# Altium integrated library Philips Microcontroller 8-Bit.IntLib: 472 symbols (part 4 of 17)
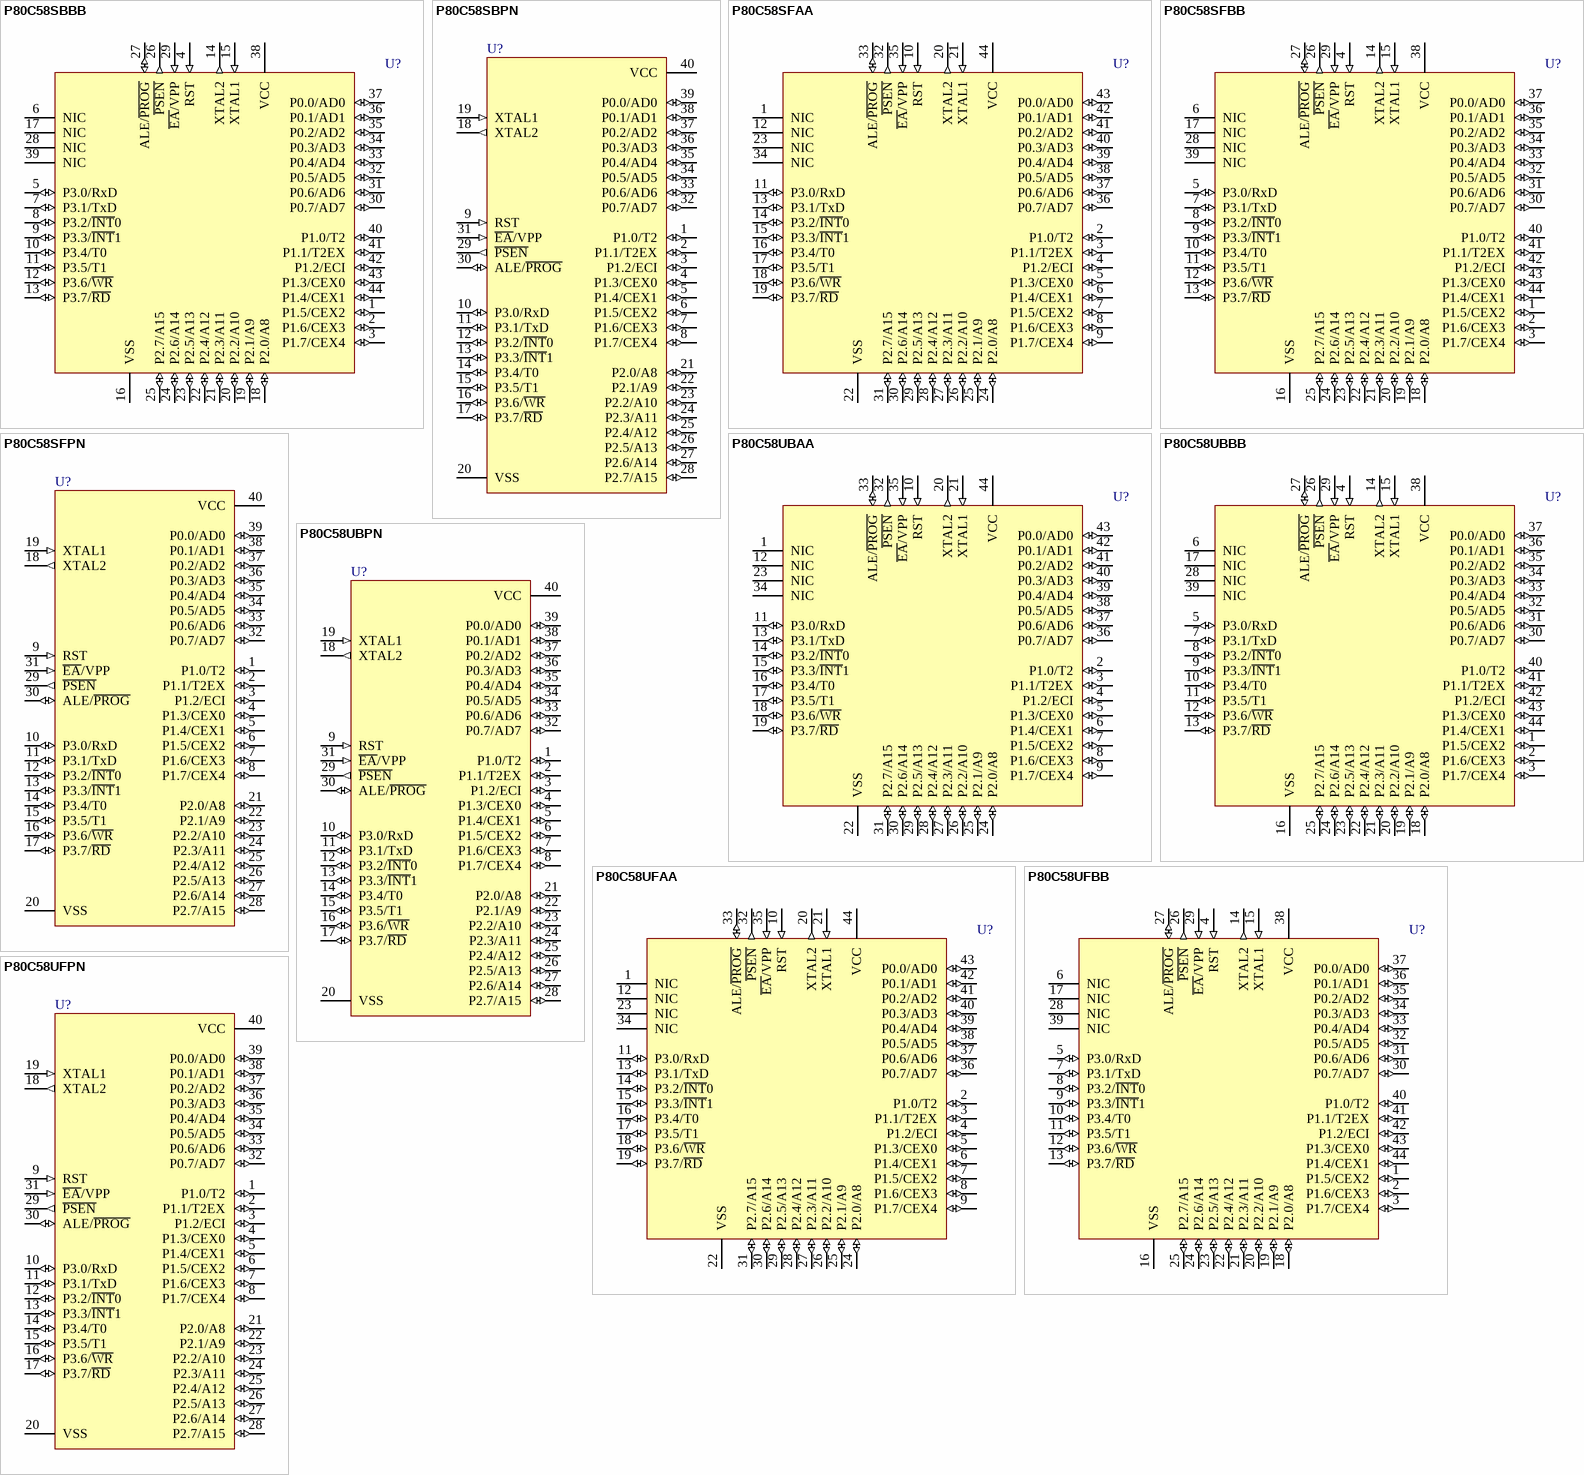
[diagram p49: symbols P80C58SBBB to P80C58UFPN]

## P80C58UFBB
designator U?
80C51 8-Bit Microcontroller Family: 256 B RAM, 32 kB ROM, 5V, Low Power, High Speed; Published: 21-May-2003; LatestRevisionDate: 13-Apr-2006; LatestRevisionNote: IPC-7351 Footprint Added.; DatasheetVersion: 7-Aug-2000; PackageVersion: Aug-2000; PackageReference: SOT307-2; Publisher: Altium Limited; PackageDescription: 44-Pin Quad Flat Pack 0.8 mm Pitch; ComponentLink1Description: Manufacturer Link; ComponentLink1URL: http://www-us2.semiconductors.philips.com/; ComponentLink2Description: Datasheet; ComponentLink2URL: http://www.semiconductors.philips.com/acrobat/datasheets/89C51_89C52_89C54_89C58_10.pdf; ComponentLink3Description: Discontinuation Notice; ComponentLink3URL: http://www.semiconductors.philips.com/pip/old/89c51_89c52_89c54_89c58_10.html
footprint SOT307-2_N (QFP, 44-Leads, Body 10x10mm, Pitch 0.8mm, IPC Medium Density)
footprint SOT307-2_L (QFP, 44-Leads, Body 10x10mm, Pitch 0.8mm, IPC High Density)
footprint SOT307-2_M (QFP, 44-Leads, Body 10x10mm, Pitch 0.8mm, IPC Low Density)
pins: 1 P1.5/CEX2 (io), 2 P1.6/CEX3 (io), 3 P1.7/CEX4 (io), 4 RST (in), 5 P3.0/RxD (io), 6 NIC, 7 P3.1/TxD (io), 8 P3.2/~{INT}0 (io), 9 P3.3/~{INT}1 (io), 10 P3.4/T0 (io), 11 P3.5/T1 (io), 12 P3.6/~{WR} (io), 13 P3.7/~{RD} (io), 14 XTAL2 (out), 15 XTAL1 (in), 16 VSS (power), 17 NIC, 18 P2.0/A8 (io), 19 P2.1/A9 (io), 20 P2.2/A10 (io), 21 P2.3/A11 (io), 22 P2.4/A12 (io), 23 P2.5/A13 (io), 24 P2.6/A14 (io), 25 P2.7/A15 (io), 26 ~{PSEN} (out), 27 ALE/~{PROG} (io), 28 NIC, 29 ~{EA}/VPP (in), 30 P0.7/AD7 (io), 31 P0.6/AD6 (io), 32 P0.5/AD5 (io), 33 P0.4/AD4 (io), 34 P0.3/AD3 (io), 35 P0.2/AD2 (io), 36 P0.1/AD1 (io), 37 P0.0/AD0 (io), 38 VCC (power), 39 NIC, 40 P1.0/T2 (io), 41 P1.1/T2EX (io), 42 P1.2/ECI (io), 43 P1.3/CEX0 (io), 44 P1.4/CEX1 (io)

## P80C58UFPN
designator U?
80C51 8-Bit Microcontroller Family: 256 B RAM, 32 kB ROM, 5V, Low Power, High Speed; Published: 21-May-2003; DatasheetVersion: 7-Aug-2000; PackageVersion: Aug-2000; PackageReference: SOT129-1; Publisher: Altium Limited; PackageDescription: DIP, Plastic; 40 Leads; Row Spacing 15.24 mm; Pitch 2.54 mm; Code_JEDEC: MO-015; ComponentLink1Description: Manufacturer Link; ComponentLink1URL: http://www-us2.semiconductors.philips.com/; ComponentLink2Description: Datasheet; ComponentLink2URL: http://www.semiconductors.philips.com/acrobat/datasheets/89C51_89C52_89C54_89C58_10.pdf; ComponentLink3Description: Discontinuation Notice; ComponentLink3URL: http://www.semiconductors.philips.com/pip/old/89c51_89c52_89c54_89c58_10.html
footprint SOT129-1 (DIP, Plastic; 40 Leads; Row Spacing 15.24 mm; Pitch 2.54 mm)
pins: 1 P1.0/T2 (io), 2 P1.1/T2EX (io), 3 P1.2/ECI (io), 4 P1.3/CEX0 (io), 5 P1.4/CEX1 (io), 6 P1.5/CEX2 (io), 7 P1.6/CEX3 (io), 8 P1.7/CEX4 (io), 9 RST (in), 10 P3.0/RxD (io), 11 P3.1/TxD (io), 12 P3.2/~{INT}0 (io), 13 P3.3/~{INT}1 (io), 14 P3.4/T0 (io), 15 P3.5/T1 (io), 16 P3.6/~{WR} (io), 17 P3.7/~{RD} (io), 18 XTAL2 (out), 19 XTAL1 (in), 20 VSS (power), 21 P2.0/A8 (io), 22 P2.1/A9 (io), 23 P2.2/A10 (io), 24 P2.3/A11 (io), 25 P2.4/A12 (io), 26 P2.5/A13 (io), 27 P2.6/A14 (io), 28 P2.7/A15 (io), 29 ~{PSEN} (out), 30 ALE/~{PROG} (io), 31 ~{EA}/VPP (in), 32 P0.7/AD7 (io), 33 P0.6/AD6 (io), 34 P0.5/AD5 (io), 35 P0.4/AD4 (io), 36 P0.3/AD3 (io), 37 P0.2/AD2 (io), 38 P0.1/AD1 (io), 39 P0.0/AD0 (io), 40 VCC (power)

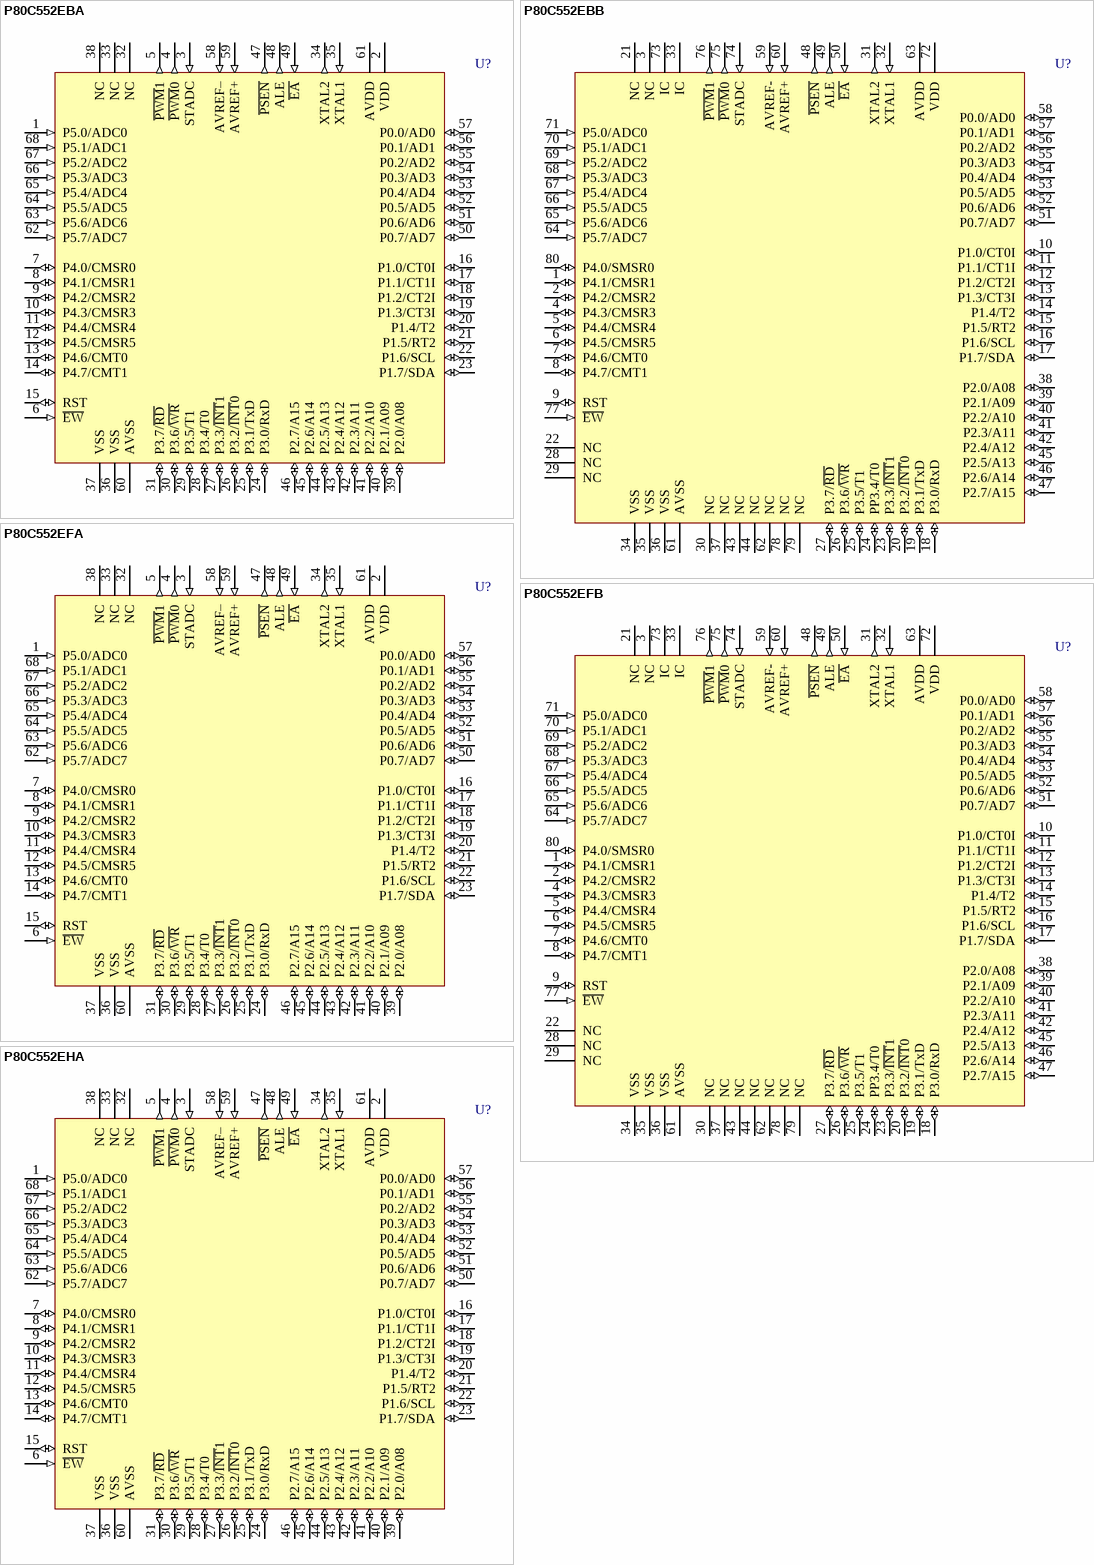
[diagram p8: symbols P80C552EBA to P80C552EHA]

## P80C552EBA
designator U?
ROMless, Single-Chip 8-Bit Microcontroller with 10-bit A/D, Capture/Compare Timer, High-Speed Outputs, PWM; Published: 21-May-2003; LatestRevisionDate: 13-Apr-2006; LatestRevisionNote: IPC-7351 Footprint Added.; DatasheetVersion: 3-Sep-2002; PackageVersion: Sep-2002; PackageReference: SOT188-2; Publisher: Altium Limited; PackageDescription: 68-Pin Leaded Chip Carrier 1.27 mm Pitch; Code_JEDEC: MS-018; Code_IPC: PLCC-68; ComponentLink1Description: Manufacturer Link; ComponentLink1URL: http://www-us2.semiconductors.philips.com/; ComponentLink2Description: Datasheet; ComponentLink2URL: http://www.semiconductors.philips.com/acrobat/datasheets/80C552_83C552_4.pdf
footprint SOT188-2_N (Leaded Chip Carrier, 68-Leads, Body 24.2x24.2mm, Pitch 1.27mm, IPC Medium Density)
footprint SOT188-2_L (Leaded Chip Carrier, 68-Leads, Body 24.2x24.2mm, Pitch 1.27mm, IPC High Density)
footprint SOT188-2_M (Leaded Chip Carrier, 68-Leads, Body 24.2x24.2mm, Pitch 1.27mm, IPC Low Density)
pins: 1 P5.0/ADC0 (in), 2 VDD (power), 3 STADC (in), 4 ~{PWM}0 (out), 5 ~{PWM}1 (out), 6 ~{EW} (in), 7 P4.0/CMSR0 (io), 8 P4.1/CMSR1 (io), 9 P4.2/CMSR2 (io), 10 P4.3/CMSR3 (io), 11 P4.4/CMSR4 (io), 12 P4.5/CMSR5 (io), 13 P4.6/CMT0 (io), 14 P4.7/CMT1 (io), 15 RST (io), 16 P1.0/CT0I (io), 17 P1.1/CT1I (io), 18 P1.2/CT2I (io), 19 P1.3/CT3I (io), 20 P1.4/T2 (io), 21 P1.5/RT2 (io), 22 P1.6/SCL (io), 23 P1.7/SDA (io), 24 P3.0/RxD (io), 25 P3.1/TxD (io), 26 P3.2/~{INT}0 (io), 27 P3.3/~{INT}1 (io), 28 P3.4/T0 (io), 29 P3.5/T1 (io), 30 P3.6/~{WR} (io), 31 P3.7/~{RD} (io), 32 NC, 33 NC, 34 XTAL2 (out), 35 XTAL1 (in), 36 VSS (power), 37 VSS (power), 38 NC, 39 P2.0/A08 (io), 40 P2.1/A09 (io), 41 P2.2/A10 (io), 42 P2.3/A11 (io), 43 P2.4/A12 (io), 44 P2.5/A13 (io), 45 P2.6/A14 (io), 46 P2.7/A15 (io), 47 ~{PSEN} (out), 48 ALE (out), 49 ~{EA} (in), 50 P0.7/AD7 (io), 51 P0.6/AD6 (io), 52 P0.5/AD5 (io), 53 P0.4/AD4 (io), 54 P0.3/AD3 (io), 55 P0.2/AD2 (io), 56 P0.1/AD1 (io), 57 P0.0/AD0 (io), 58 AVREF– (in), 59 AVREF+ (in), 60 AVSS (power), 61 AVDD (power), 62 P5.7/ADC7 (in), 63 P5.6/ADC6 (in), 64 P5.5/ADC5 (in), 65 P5.4/ADC4 (in), 66 P5.3/ADC3 (in), 67 P5.2/ADC2 (in), 68 P5.1/ADC1 (in)

## P80C552EBB
designator U?
ROMless, Single-Chip 8-Bit Microcontroller with 10-bit A/D, Capture/Compare Timer, High-Speed Outputs, PWM; DoNotConnect: Pins 33 & 73 are internally connected (IC), do not use.; Published: 21-May-2003; LatestRevisionDate: 13-Apr-2006; LatestRevisionNote: IPC-7351 Footprint Added.; DatasheetVersion: 3-Sep-2002; PackageVersion: Sep-2002; PackageReference: SOT318-2; Publisher: Altium Limited; PackageDescription: 80-Pin Quad Flat Pack Rectangular 0.8 mm Pitch; Code_JEDEC: MO-112; ComponentLink1Description: Manufacturer Link; ComponentLink1URL: http://www-us2.semiconductors.philips.com/; ComponentLink2Description: Datasheet; ComponentLink2URL: http://www.semiconductors.philips.com/acrobat/datasheets/80C552_83C552_4.pdf
footprint SOT318-2_N (QFP, 80-Leads, Body 20x14mm, Pitch 0.8mm, IPC Medium Density)
footprint SOT318-2_L (QFP, 80-Leads, Body 20x14mm, Pitch 0.8mm, IPC High Density)
footprint SOT318-2_M (QFP, 80-Leads, Body 20x14mm, Pitch 0.8mm, IPC Low Density)
pins: 1 P4.1/CMSR1 (io), 2 P4.2/CMSR2 (io), 3 NC, 4 P4.3/CMSR3 (io), 5 P4.4/CMSR4 (io), 6 P4.5/CMSR5 (io), 7 P4.6/CMT0 (io), 8 P4.7/CMT1 (io), 9 RST (io), 10 P1.0/CT0I (io), 11 P1.1/CT1I (io), 12 P1.2/CT2I (io), 13 P1.3/CT3I (io), 14 P1.4/T2 (io), 15 P1.5/RT2 (io), 16 P1.6/SCL (io), 17 P1.7/SDA (io), 18 P3.0/RxD (io), 19 P3.1/TxD (io), 20 P3.2/~{INT}0 (io), 21 NC, 22 NC, 23 P3.3/~{INT}1 (io), 24 PP3.4/T0 (io), 25 P3.5/T1 (io), 26 P3.6/~{WR} (io), 27 P3.7/~{RD} (io), 28 NC, 29 NC, 30 NC, 31 XTAL2 (out), 32 XTAL1 (in), 33 IC, 34 VSS (power), 35 VSS (power), 36 VSS (power), 37 NC, 38 P2.0/A08 (io), 39 P2.1/A09 (io), 40 P2.2/A10 (io), 41 P2.3/A11 (io), 42 P2.4/A12 (io), 43 NC, 44 NC, 45 P2.5/A13 (io), 46 P2.6/A14 (io), 47 P2.7/A15 (io), 48 ~{PSEN} (out), 49 ALE (out), 50 ~{EA} (in), 51 P0.7/AD7 (io), 52 P0.6/AD6 (io), 53 P0.5/AD5 (io), 54 P0.4/AD4 (io), 55 P0.3/AD3 (io), 56 P0.2/AD2 (io), 57 P0.1/AD1 (io), 58 P0.0/AD0 (io), 59 AVREF- (in), 60 AVREF+ (in), 61 AVSS (power), 62 NC, 63 AVDD (power), 64 P5.7/ADC7 (in), 65 P5.6/ADC6 (in), 66 P5.5/ADC5 (in), 67 P5.4/ADC4 (in), 68 P5.3/ADC3 (in), 69 P5.2/ADC2 (in), 70 P5.1/ADC1 (in), 71 P5.0/ADC0 (in), 72 VDD (power), 73 IC, 74 STADC (in), 75 ~{PWM}0 (out), 76 ~{PWM}1 (out), 77 ~{EW} (in), 78 NC, 79 NC, 80 P4.0/SMSR0 (io)

## P80C552EFA
designator U?
ROMless, Single-Chip 8-Bit Microcontroller with 10-bit A/D, Capture/Compare Timer, High-Speed Outputs, PWM; Published: 21-May-2003; LatestRevisionDate: 13-Apr-2006; LatestRevisionNote: IPC-7351 Footprint Added.; DatasheetVersion: 3-Sep-2002; PackageVersion: Sep-2002; PackageReference: SOT188-2; Publisher: Altium Limited; PackageDescription: 68-Pin Leaded Chip Carrier 1.27 mm Pitch; Code_JEDEC: MS-018; Code_IPC: PLCC-68; ComponentLink1Description: Manufacturer Link; ComponentLink1URL: http://www-us2.semiconductors.philips.com/; ComponentLink2Description: Datasheet; ComponentLink2URL: http://www.semiconductors.philips.com/acrobat/datasheets/80C552_83C552_4.pdf
footprint SOT188-2_N (Leaded Chip Carrier, 68-Leads, Body 24.2x24.2mm, Pitch 1.27mm, IPC Medium Density)
footprint SOT188-2_L (Leaded Chip Carrier, 68-Leads, Body 24.2x24.2mm, Pitch 1.27mm, IPC High Density)
footprint SOT188-2_M (Leaded Chip Carrier, 68-Leads, Body 24.2x24.2mm, Pitch 1.27mm, IPC Low Density)
pins: 1 P5.0/ADC0 (in), 2 VDD (power), 3 STADC (in), 4 ~{PWM}0 (out), 5 ~{PWM}1 (out), 6 ~{EW} (in), 7 P4.0/CMSR0 (io), 8 P4.1/CMSR1 (io), 9 P4.2/CMSR2 (io), 10 P4.3/CMSR3 (io), 11 P4.4/CMSR4 (io), 12 P4.5/CMSR5 (io), 13 P4.6/CMT0 (io), 14 P4.7/CMT1 (io), 15 RST (io), 16 P1.0/CT0I (io), 17 P1.1/CT1I (io), 18 P1.2/CT2I (io), 19 P1.3/CT3I (io), 20 P1.4/T2 (io), 21 P1.5/RT2 (io), 22 P1.6/SCL (io), 23 P1.7/SDA (io), 24 P3.0/RxD (io), 25 P3.1/TxD (io), 26 P3.2/~{INT}0 (io), 27 P3.3/~{INT}1 (io), 28 P3.4/T0 (io), 29 P3.5/T1 (io), 30 P3.6/~{WR} (io), 31 P3.7/~{RD} (io), 32 NC, 33 NC, 34 XTAL2 (out), 35 XTAL1 (in), 36 VSS (power), 37 VSS (power), 38 NC, 39 P2.0/A08 (io), 40 P2.1/A09 (io), 41 P2.2/A10 (io), 42 P2.3/A11 (io), 43 P2.4/A12 (io), 44 P2.5/A13 (io), 45 P2.6/A14 (io), 46 P2.7/A15 (io), 47 ~{PSEN} (out), 48 ALE (out), 49 ~{EA} (in), 50 P0.7/AD7 (io), 51 P0.6/AD6 (io), 52 P0.5/AD5 (io), 53 P0.4/AD4 (io), 54 P0.3/AD3 (io), 55 P0.2/AD2 (io), 56 P0.1/AD1 (io), 57 P0.0/AD0 (io), 58 AVREF– (in), 59 AVREF+ (in), 60 AVSS (power), 61 AVDD (power), 62 P5.7/ADC7 (in), 63 P5.6/ADC6 (in), 64 P5.5/ADC5 (in), 65 P5.4/ADC4 (in), 66 P5.3/ADC3 (in), 67 P5.2/ADC2 (in), 68 P5.1/ADC1 (in)

## P80C552EFB
designator U?
ROMless, Single-Chip 8-Bit Microcontroller with 10-bit A/D, Capture/Compare Timer, High-Speed Outputs, PWM; DoNotConnect: Pins 33 & 73 are internally connected (IC), do not use.; Published: 21-May-2003; LatestRevisionDate: 13-Apr-2006; LatestRevisionNote: IPC-7351 Footprint Added.; DatasheetVersion: 3-Sep-2002; PackageVersion: Sep-2002; PackageReference: SOT318-2; Publisher: Altium Limited; PackageDescription: 80-Pin Quad Flat Pack Rectangular 0.8 mm Pitch; Code_JEDEC: MO-112; ComponentLink1Description: Manufacturer Link; ComponentLink1URL: http://www-us2.semiconductors.philips.com/; ComponentLink2Description: Datasheet; ComponentLink2URL: http://www.semiconductors.philips.com/acrobat/datasheets/80C552_83C552_4.pdf
footprint SOT318-2_N (QFP, 80-Leads, Body 20x14mm, Pitch 0.8mm, IPC Medium Density)
footprint SOT318-2_L (QFP, 80-Leads, Body 20x14mm, Pitch 0.8mm, IPC High Density)
footprint SOT318-2_M (QFP, 80-Leads, Body 20x14mm, Pitch 0.8mm, IPC Low Density)
pins: 1 P4.1/CMSR1 (io), 2 P4.2/CMSR2 (io), 3 NC, 4 P4.3/CMSR3 (io), 5 P4.4/CMSR4 (io), 6 P4.5/CMSR5 (io), 7 P4.6/CMT0 (io), 8 P4.7/CMT1 (io), 9 RST (io), 10 P1.0/CT0I (io), 11 P1.1/CT1I (io), 12 P1.2/CT2I (io), 13 P1.3/CT3I (io), 14 P1.4/T2 (io), 15 P1.5/RT2 (io), 16 P1.6/SCL (io), 17 P1.7/SDA (io), 18 P3.0/RxD (io), 19 P3.1/TxD (io), 20 P3.2/~{INT}0 (io), 21 NC, 22 NC, 23 P3.3/~{INT}1 (io), 24 PP3.4/T0 (io), 25 P3.5/T1 (io), 26 P3.6/~{WR} (io), 27 P3.7/~{RD} (io), 28 NC, 29 NC, 30 NC, 31 XTAL2 (out), 32 XTAL1 (in), 33 IC, 34 VSS (power), 35 VSS (power), 36 VSS (power), 37 NC, 38 P2.0/A08 (io), 39 P2.1/A09 (io), 40 P2.2/A10 (io), 41 P2.3/A11 (io), 42 P2.4/A12 (io), 43 NC, 44 NC, 45 P2.5/A13 (io), 46 P2.6/A14 (io), 47 P2.7/A15 (io), 48 ~{PSEN} (out), 49 ALE (out), 50 ~{EA} (in), 51 P0.7/AD7 (io), 52 P0.6/AD6 (io), 53 P0.5/AD5 (io), 54 P0.4/AD4 (io), 55 P0.3/AD3 (io), 56 P0.2/AD2 (io), 57 P0.1/AD1 (io), 58 P0.0/AD0 (io), 59 AVREF- (in), 60 AVREF+ (in), 61 AVSS (power), 62 NC, 63 AVDD (power), 64 P5.7/ADC7 (in), 65 P5.6/ADC6 (in), 66 P5.5/ADC5 (in), 67 P5.4/ADC4 (in), 68 P5.3/ADC3 (in), 69 P5.2/ADC2 (in), 70 P5.1/ADC1 (in), 71 P5.0/ADC0 (in), 72 VDD (power), 73 IC, 74 STADC (in), 75 ~{PWM}0 (out), 76 ~{PWM}1 (out), 77 ~{EW} (in), 78 NC, 79 NC, 80 P4.0/SMSR0 (io)

## P80C552EHA
designator U?
ROMless, Single-Chip 8-Bit Microcontroller with 10-bit A/D, Capture/Compare Timer, High-Speed Outputs, PWM; Published: 21-May-2003; LatestRevisionDate: 13-Apr-2006; LatestRevisionNote: IPC-7351 Footprint Added.; DatasheetVersion: 3-Sep-2002; PackageVersion: Sep-2002; PackageReference: SOT188-2; Publisher: Altium Limited; PackageDescription: 68-Pin Leaded Chip Carrier 1.27 mm Pitch; Code_JEDEC: MS-018; Code_IPC: PLCC-68; ComponentLink1Description: Manufacturer Link; ComponentLink1URL: http://www-us2.semiconductors.philips.com/; ComponentLink2Description: Datasheet; ComponentLink2URL: http://www.semiconductors.philips.com/acrobat/datasheets/80C552_83C552_4.pdf
footprint SOT188-2_N (Leaded Chip Carrier, 68-Leads, Body 24.2x24.2mm, Pitch 1.27mm, IPC Medium Density)
footprint SOT188-2_L (Leaded Chip Carrier, 68-Leads, Body 24.2x24.2mm, Pitch 1.27mm, IPC High Density)
footprint SOT188-2_M (Leaded Chip Carrier, 68-Leads, Body 24.2x24.2mm, Pitch 1.27mm, IPC Low Density)
pins: 1 P5.0/ADC0 (in), 2 VDD (power), 3 STADC (in), 4 ~{PWM}0 (out), 5 ~{PWM}1 (out), 6 ~{EW} (in), 7 P4.0/CMSR0 (io), 8 P4.1/CMSR1 (io), 9 P4.2/CMSR2 (io), 10 P4.3/CMSR3 (io), 11 P4.4/CMSR4 (io), 12 P4.5/CMSR5 (io), 13 P4.6/CMT0 (io), 14 P4.7/CMT1 (io), 15 RST (io), 16 P1.0/CT0I (io), 17 P1.1/CT1I (io), 18 P1.2/CT2I (io), 19 P1.3/CT3I (io), 20 P1.4/T2 (io), 21 P1.5/RT2 (io), 22 P1.6/SCL (io), 23 P1.7/SDA (io), 24 P3.0/RxD (io), 25 P3.1/TxD (io), 26 P3.2/~{INT}0 (io), 27 P3.3/~{INT}1 (io), 28 P3.4/T0 (io), 29 P3.5/T1 (io), 30 P3.6/~{WR} (io), 31 P3.7/~{RD} (io), 32 NC, 33 NC, 34 XTAL2 (out), 35 XTAL1 (in), 36 VSS (power), 37 VSS (power), 38 NC, 39 P2.0/A08 (io), 40 P2.1/A09 (io), 41 P2.2/A10 (io), 42 P2.3/A11 (io), 43 P2.4/A12 (io), 44 P2.5/A13 (io), 45 P2.6/A14 (io), 46 P2.7/A15 (io), 47 ~{PSEN} (out), 48 ALE (out), 49 ~{EA} (in), 50 P0.7/AD7 (io), 51 P0.6/AD6 (io), 52 P0.5/AD5 (io), 53 P0.4/AD4 (io), 54 P0.3/AD3 (io), 55 P0.2/AD2 (io), 56 P0.1/AD1 (io), 57 P0.0/AD0 (io), 58 AVREF– (in), 59 AVREF+ (in), 60 AVSS (power), 61 AVDD (power), 62 P5.7/ADC7 (in), 63 P5.6/ADC6 (in), 64 P5.5/ADC5 (in), 65 P5.4/ADC4 (in), 66 P5.3/ADC3 (in), 67 P5.2/ADC2 (in), 68 P5.1/ADC1 (in)

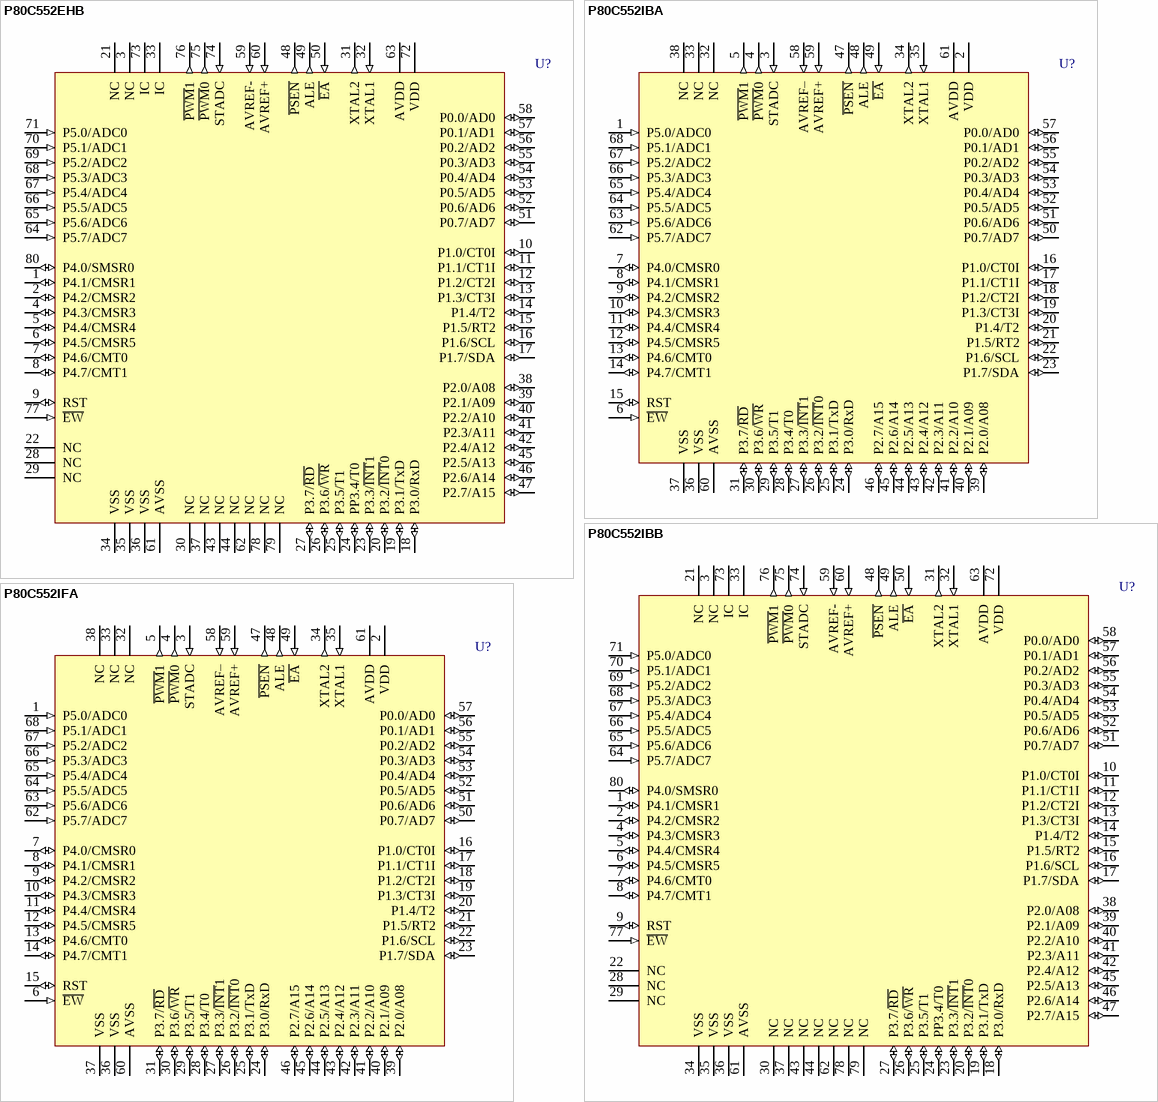
[diagram p9: symbols P80C552EHB to P80C552IFA]

## P80C552EHB
designator U?
ROMless, Single-Chip 8-Bit Microcontroller with 10-bit A/D, Capture/Compare Timer, High-Speed Outputs, PWM; DoNotConnect: Pins 33 & 73 are internally connected (IC), do not use.; Published: 21-May-2003; LatestRevisionDate: 13-Apr-2006; LatestRevisionNote: IPC-7351 Footprint Added.; DatasheetVersion: 3-Sep-2002; PackageVersion: Sep-2002; PackageReference: SOT318-2; Publisher: Altium Limited; PackageDescription: 80-Pin Quad Flat Pack Rectangular 0.8 mm Pitch; Code_JEDEC: MO-112; ComponentLink1Description: Manufacturer Link; ComponentLink1URL: http://www-us2.semiconductors.philips.com/; ComponentLink2Description: Datasheet; ComponentLink2URL: http://www.semiconductors.philips.com/acrobat/datasheets/80C552_83C552_4.pdf
footprint SOT318-2_N (QFP, 80-Leads, Body 20x14mm, Pitch 0.8mm, IPC Medium Density)
footprint SOT318-2_L (QFP, 80-Leads, Body 20x14mm, Pitch 0.8mm, IPC High Density)
footprint SOT318-2_M (QFP, 80-Leads, Body 20x14mm, Pitch 0.8mm, IPC Low Density)
pins: 1 P4.1/CMSR1 (io), 2 P4.2/CMSR2 (io), 3 NC, 4 P4.3/CMSR3 (io), 5 P4.4/CMSR4 (io), 6 P4.5/CMSR5 (io), 7 P4.6/CMT0 (io), 8 P4.7/CMT1 (io), 9 RST (io), 10 P1.0/CT0I (io), 11 P1.1/CT1I (io), 12 P1.2/CT2I (io), 13 P1.3/CT3I (io), 14 P1.4/T2 (io), 15 P1.5/RT2 (io), 16 P1.6/SCL (io), 17 P1.7/SDA (io), 18 P3.0/RxD (io), 19 P3.1/TxD (io), 20 P3.2/~{INT}0 (io), 21 NC, 22 NC, 23 P3.3/~{INT}1 (io), 24 PP3.4/T0 (io), 25 P3.5/T1 (io), 26 P3.6/~{WR} (io), 27 P3.7/~{RD} (io), 28 NC, 29 NC, 30 NC, 31 XTAL2 (out), 32 XTAL1 (in), 33 IC, 34 VSS (power), 35 VSS (power), 36 VSS (power), 37 NC, 38 P2.0/A08 (io), 39 P2.1/A09 (io), 40 P2.2/A10 (io), 41 P2.3/A11 (io), 42 P2.4/A12 (io), 43 NC, 44 NC, 45 P2.5/A13 (io), 46 P2.6/A14 (io), 47 P2.7/A15 (io), 48 ~{PSEN} (out), 49 ALE (out), 50 ~{EA} (in), 51 P0.7/AD7 (io), 52 P0.6/AD6 (io), 53 P0.5/AD5 (io), 54 P0.4/AD4 (io), 55 P0.3/AD3 (io), 56 P0.2/AD2 (io), 57 P0.1/AD1 (io), 58 P0.0/AD0 (io), 59 AVREF- (in), 60 AVREF+ (in), 61 AVSS (power), 62 NC, 63 AVDD (power), 64 P5.7/ADC7 (in), 65 P5.6/ADC6 (in), 66 P5.5/ADC5 (in), 67 P5.4/ADC4 (in), 68 P5.3/ADC3 (in), 69 P5.2/ADC2 (in), 70 P5.1/ADC1 (in), 71 P5.0/ADC0 (in), 72 VDD (power), 73 IC, 74 STADC (in), 75 ~{PWM}0 (out), 76 ~{PWM}1 (out), 77 ~{EW} (in), 78 NC, 79 NC, 80 P4.0/SMSR0 (io)

## P80C552IBA
designator U?
ROMless, Single-Chip 8-Bit Microcontroller with 10-bit A/D, Capture/Compare Timer, High-Speed Outputs, PWM; Published: 21-May-2003; LatestRevisionDate: 13-Apr-2006; LatestRevisionNote: IPC-7351 Footprint Added.; DatasheetVersion: 3-Sep-2002; PackageVersion: Sep-2002; PackageReference: SOT188-2; Publisher: Altium Limited; PackageDescription: 68-Pin Leaded Chip Carrier 1.27 mm Pitch; Code_JEDEC: MS-018; Code_IPC: PLCC-68; ComponentLink1Description: Manufacturer Link; ComponentLink1URL: http://www-us2.semiconductors.philips.com/; ComponentLink2Description: Datasheet; ComponentLink2URL: http://www.semiconductors.philips.com/acrobat/datasheets/80C552_83C552_4.pdf
footprint SOT188-2_N (Leaded Chip Carrier, 68-Leads, Body 24.2x24.2mm, Pitch 1.27mm, IPC Medium Density)
footprint SOT188-2_L (Leaded Chip Carrier, 68-Leads, Body 24.2x24.2mm, Pitch 1.27mm, IPC High Density)
footprint SOT188-2_M (Leaded Chip Carrier, 68-Leads, Body 24.2x24.2mm, Pitch 1.27mm, IPC Low Density)
pins: 1 P5.0/ADC0 (in), 2 VDD (power), 3 STADC (in), 4 ~{PWM}0 (out), 5 ~{PWM}1 (out), 6 ~{EW} (in), 7 P4.0/CMSR0 (io), 8 P4.1/CMSR1 (io), 9 P4.2/CMSR2 (io), 10 P4.3/CMSR3 (io), 11 P4.4/CMSR4 (io), 12 P4.5/CMSR5 (io), 13 P4.6/CMT0 (io), 14 P4.7/CMT1 (io), 15 RST (io), 16 P1.0/CT0I (io), 17 P1.1/CT1I (io), 18 P1.2/CT2I (io), 19 P1.3/CT3I (io), 20 P1.4/T2 (io), 21 P1.5/RT2 (io), 22 P1.6/SCL (io), 23 P1.7/SDA (io), 24 P3.0/RxD (io), 25 P3.1/TxD (io), 26 P3.2/~{INT}0 (io), 27 P3.3/~{INT}1 (io), 28 P3.4/T0 (io), 29 P3.5/T1 (io), 30 P3.6/~{WR} (io), 31 P3.7/~{RD} (io), 32 NC, 33 NC, 34 XTAL2 (out), 35 XTAL1 (in), 36 VSS (power), 37 VSS (power), 38 NC, 39 P2.0/A08 (io), 40 P2.1/A09 (io), 41 P2.2/A10 (io), 42 P2.3/A11 (io), 43 P2.4/A12 (io), 44 P2.5/A13 (io), 45 P2.6/A14 (io), 46 P2.7/A15 (io), 47 ~{PSEN} (out), 48 ALE (out), 49 ~{EA} (in), 50 P0.7/AD7 (io), 51 P0.6/AD6 (io), 52 P0.5/AD5 (io), 53 P0.4/AD4 (io), 54 P0.3/AD3 (io), 55 P0.2/AD2 (io), 56 P0.1/AD1 (io), 57 P0.0/AD0 (io), 58 AVREF– (in), 59 AVREF+ (in), 60 AVSS (power), 61 AVDD (power), 62 P5.7/ADC7 (in), 63 P5.6/ADC6 (in), 64 P5.5/ADC5 (in), 65 P5.4/ADC4 (in), 66 P5.3/ADC3 (in), 67 P5.2/ADC2 (in), 68 P5.1/ADC1 (in)

## P80C552IBB
designator U?
ROMless, Single-Chip 8-Bit Microcontroller with 10-bit A/D, Capture/Compare Timer, High-Speed Outputs, PWM; DoNotConnect: Pins 33 & 73 are internally connected (IC), do not use.; Published: 21-May-2003; LatestRevisionDate: 13-Apr-2006; LatestRevisionNote: IPC-7351 Footprint Added.; DatasheetVersion: 3-Sep-2002; PackageVersion: Sep-2002; PackageReference: SOT318-2; Publisher: Altium Limited; PackageDescription: 80-Pin Quad Flat Pack Rectangular 0.8 mm Pitch; Code_JEDEC: MO-112; ComponentLink1Description: Manufacturer Link; ComponentLink1URL: http://www-us2.semiconductors.philips.com/; ComponentLink2Description: Datasheet; ComponentLink2URL: http://www.semiconductors.philips.com/acrobat/datasheets/80C552_83C552_4.pdf
footprint SOT318-2_N (QFP, 80-Leads, Body 20x14mm, Pitch 0.8mm, IPC Medium Density)
footprint SOT318-2_L (QFP, 80-Leads, Body 20x14mm, Pitch 0.8mm, IPC High Density)
footprint SOT318-2_M (QFP, 80-Leads, Body 20x14mm, Pitch 0.8mm, IPC Low Density)
pins: 1 P4.1/CMSR1 (io), 2 P4.2/CMSR2 (io), 3 NC, 4 P4.3/CMSR3 (io), 5 P4.4/CMSR4 (io), 6 P4.5/CMSR5 (io), 7 P4.6/CMT0 (io), 8 P4.7/CMT1 (io), 9 RST (io), 10 P1.0/CT0I (io), 11 P1.1/CT1I (io), 12 P1.2/CT2I (io), 13 P1.3/CT3I (io), 14 P1.4/T2 (io), 15 P1.5/RT2 (io), 16 P1.6/SCL (io), 17 P1.7/SDA (io), 18 P3.0/RxD (io), 19 P3.1/TxD (io), 20 P3.2/~{INT}0 (io), 21 NC, 22 NC, 23 P3.3/~{INT}1 (io), 24 PP3.4/T0 (io), 25 P3.5/T1 (io), 26 P3.6/~{WR} (io), 27 P3.7/~{RD} (io), 28 NC, 29 NC, 30 NC, 31 XTAL2 (out), 32 XTAL1 (in), 33 IC, 34 VSS (power), 35 VSS (power), 36 VSS (power), 37 NC, 38 P2.0/A08 (io), 39 P2.1/A09 (io), 40 P2.2/A10 (io), 41 P2.3/A11 (io), 42 P2.4/A12 (io), 43 NC, 44 NC, 45 P2.5/A13 (io), 46 P2.6/A14 (io), 47 P2.7/A15 (io), 48 ~{PSEN} (out), 49 ALE (out), 50 ~{EA} (in), 51 P0.7/AD7 (io), 52 P0.6/AD6 (io), 53 P0.5/AD5 (io), 54 P0.4/AD4 (io), 55 P0.3/AD3 (io), 56 P0.2/AD2 (io), 57 P0.1/AD1 (io), 58 P0.0/AD0 (io), 59 AVREF- (in), 60 AVREF+ (in), 61 AVSS (power), 62 NC, 63 AVDD (power), 64 P5.7/ADC7 (in), 65 P5.6/ADC6 (in), 66 P5.5/ADC5 (in), 67 P5.4/ADC4 (in), 68 P5.3/ADC3 (in), 69 P5.2/ADC2 (in), 70 P5.1/ADC1 (in), 71 P5.0/ADC0 (in), 72 VDD (power), 73 IC, 74 STADC (in), 75 ~{PWM}0 (out), 76 ~{PWM}1 (out), 77 ~{EW} (in), 78 NC, 79 NC, 80 P4.0/SMSR0 (io)

## P80C552IFA
designator U?
ROMless, Single-Chip 8-Bit Microcontroller with 10-bit A/D, Capture/Compare Timer, High-Speed Outputs, PWM; Published: 21-May-2003; LatestRevisionDate: 13-Apr-2006; LatestRevisionNote: IPC-7351 Footprint Added.; DatasheetVersion: 3-Sep-2002; PackageVersion: Sep-2002; PackageReference: SOT188-2; Publisher: Altium Limited; PackageDescription: 68-Pin Leaded Chip Carrier 1.27 mm Pitch; Code_JEDEC: MS-018; Code_IPC: PLCC-68; ComponentLink1Description: Manufacturer Link; ComponentLink1URL: http://www-us2.semiconductors.philips.com/; ComponentLink2Description: Datasheet; ComponentLink2URL: http://www.semiconductors.philips.com/acrobat/datasheets/80C552_83C552_4.pdf
footprint SOT188-2_N (Leaded Chip Carrier, 68-Leads, Body 24.2x24.2mm, Pitch 1.27mm, IPC Medium Density)
footprint SOT188-2_L (Leaded Chip Carrier, 68-Leads, Body 24.2x24.2mm, Pitch 1.27mm, IPC High Density)
footprint SOT188-2_M (Leaded Chip Carrier, 68-Leads, Body 24.2x24.2mm, Pitch 1.27mm, IPC Low Density)
pins: 1 P5.0/ADC0 (in), 2 VDD (power), 3 STADC (in), 4 ~{PWM}0 (out), 5 ~{PWM}1 (out), 6 ~{EW} (in), 7 P4.0/CMSR0 (io), 8 P4.1/CMSR1 (io), 9 P4.2/CMSR2 (io), 10 P4.3/CMSR3 (io), 11 P4.4/CMSR4 (io), 12 P4.5/CMSR5 (io), 13 P4.6/CMT0 (io), 14 P4.7/CMT1 (io), 15 RST (io), 16 P1.0/CT0I (io), 17 P1.1/CT1I (io), 18 P1.2/CT2I (io), 19 P1.3/CT3I (io), 20 P1.4/T2 (io), 21 P1.5/RT2 (io), 22 P1.6/SCL (io), 23 P1.7/SDA (io), 24 P3.0/RxD (io), 25 P3.1/TxD (io), 26 P3.2/~{INT}0 (io), 27 P3.3/~{INT}1 (io), 28 P3.4/T0 (io), 29 P3.5/T1 (io), 30 P3.6/~{WR} (io), 31 P3.7/~{RD} (io), 32 NC, 33 NC, 34 XTAL2 (out), 35 XTAL1 (in), 36 VSS (power), 37 VSS (power), 38 NC, 39 P2.0/A08 (io), 40 P2.1/A09 (io), 41 P2.2/A10 (io), 42 P2.3/A11 (io), 43 P2.4/A12 (io), 44 P2.5/A13 (io), 45 P2.6/A14 (io), 46 P2.7/A15 (io), 47 ~{PSEN} (out), 48 ALE (out), 49 ~{EA} (in), 50 P0.7/AD7 (io), 51 P0.6/AD6 (io), 52 P0.5/AD5 (io), 53 P0.4/AD4 (io), 54 P0.3/AD3 (io), 55 P0.2/AD2 (io), 56 P0.1/AD1 (io), 57 P0.0/AD0 (io), 58 AVREF– (in), 59 AVREF+ (in), 60 AVSS (power), 61 AVDD (power), 62 P5.7/ADC7 (in), 63 P5.6/ADC6 (in), 64 P5.5/ADC5 (in), 65 P5.4/ADC4 (in), 66 P5.3/ADC3 (in), 67 P5.2/ADC2 (in), 68 P5.1/ADC1 (in)

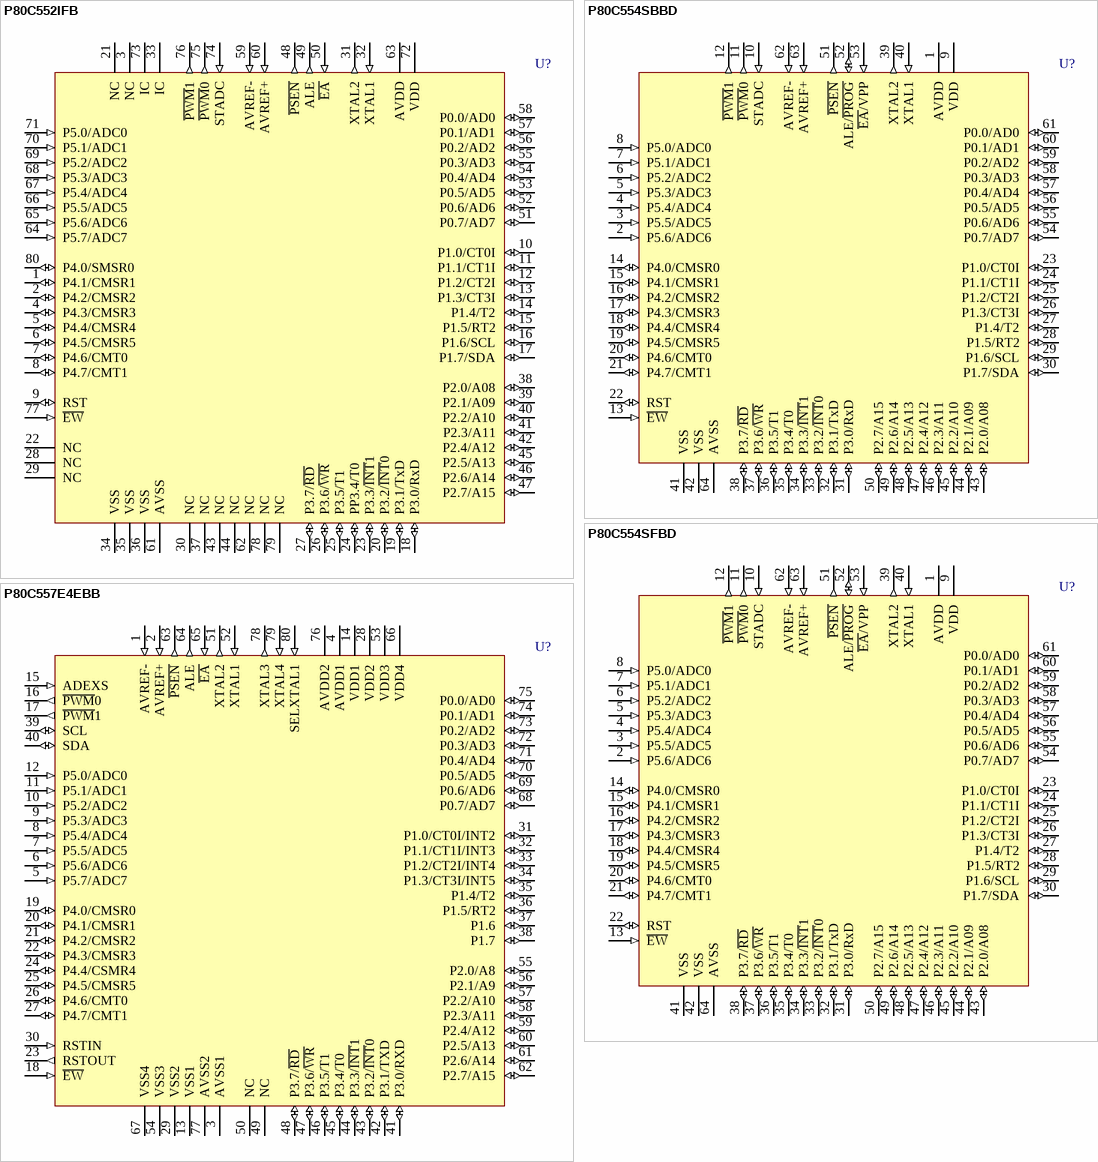
[diagram p10: symbols P80C552IFB to P80C557E4EBB]

## P80C552IFB
designator U?
ROMless, Single-Chip 8-Bit Microcontroller with 10-bit A/D, Capture/Compare Timer, High-Speed Outputs, PWM; DoNotConnect: Pins 33 & 73 are internally connected (IC), do not use.; Published: 21-May-2003; LatestRevisionDate: 13-Apr-2006; LatestRevisionNote: IPC-7351 Footprint Added.; DatasheetVersion: 3-Sep-2002; PackageVersion: Sep-2002; PackageReference: SOT318-2; Publisher: Altium Limited; PackageDescription: 80-Pin Quad Flat Pack Rectangular 0.8 mm Pitch; Code_JEDEC: MO-112; ComponentLink1Description: Manufacturer Link; ComponentLink1URL: http://www-us2.semiconductors.philips.com/; ComponentLink2Description: Datasheet; ComponentLink2URL: http://www.semiconductors.philips.com/acrobat/datasheets/80C552_83C552_4.pdf
footprint SOT318-2_N (QFP, 80-Leads, Body 20x14mm, Pitch 0.8mm, IPC Medium Density)
footprint SOT318-2_L (QFP, 80-Leads, Body 20x14mm, Pitch 0.8mm, IPC High Density)
footprint SOT318-2_M (QFP, 80-Leads, Body 20x14mm, Pitch 0.8mm, IPC Low Density)
pins: 1 P4.1/CMSR1 (io), 2 P4.2/CMSR2 (io), 3 NC, 4 P4.3/CMSR3 (io), 5 P4.4/CMSR4 (io), 6 P4.5/CMSR5 (io), 7 P4.6/CMT0 (io), 8 P4.7/CMT1 (io), 9 RST (io), 10 P1.0/CT0I (io), 11 P1.1/CT1I (io), 12 P1.2/CT2I (io), 13 P1.3/CT3I (io), 14 P1.4/T2 (io), 15 P1.5/RT2 (io), 16 P1.6/SCL (io), 17 P1.7/SDA (io), 18 P3.0/RxD (io), 19 P3.1/TxD (io), 20 P3.2/~{INT}0 (io), 21 NC, 22 NC, 23 P3.3/~{INT}1 (io), 24 PP3.4/T0 (io), 25 P3.5/T1 (io), 26 P3.6/~{WR} (io), 27 P3.7/~{RD} (io), 28 NC, 29 NC, 30 NC, 31 XTAL2 (out), 32 XTAL1 (in), 33 IC, 34 VSS (power), 35 VSS (power), 36 VSS (power), 37 NC, 38 P2.0/A08 (io), 39 P2.1/A09 (io), 40 P2.2/A10 (io), 41 P2.3/A11 (io), 42 P2.4/A12 (io), 43 NC, 44 NC, 45 P2.5/A13 (io), 46 P2.6/A14 (io), 47 P2.7/A15 (io), 48 ~{PSEN} (out), 49 ALE (out), 50 ~{EA} (in), 51 P0.7/AD7 (io), 52 P0.6/AD6 (io), 53 P0.5/AD5 (io), 54 P0.4/AD4 (io), 55 P0.3/AD3 (io), 56 P0.2/AD2 (io), 57 P0.1/AD1 (io), 58 P0.0/AD0 (io), 59 AVREF- (in), 60 AVREF+ (in), 61 AVSS (power), 62 NC, 63 AVDD (power), 64 P5.7/ADC7 (in), 65 P5.6/ADC6 (in), 66 P5.5/ADC5 (in), 67 P5.4/ADC4 (in), 68 P5.3/ADC3 (in), 69 P5.2/ADC2 (in), 70 P5.1/ADC1 (in), 71 P5.0/ADC0 (in), 72 VDD (power), 73 IC, 74 STADC (in), 75 ~{PWM}0 (out), 76 ~{PWM}1 (out), 77 ~{EW} (in), 78 NC, 79 NC, 80 P4.0/SMSR0 (io)

## P80C554SBBD
designator U?
80C51 8-Bit Microcontroller - 6-Clock Operation, 16K/512 ROMless, 7-channel 10-bit A/D, I²C, PWM, Capture/Compare, High I/O; Published: 21-May-2003; LatestRevisionDate: 13-Apr-2006; LatestRevisionNote: IPC-7351 Footprint Added.; DatasheetVersion: 28-Jan-2003; PackageVersion: Jan-2003; PackageReference: SOT314-2; Publisher: Altium Limited; PackageDescription: 64-Pin Thin Quad Flat Pack 0.5 mm Pitch; Code_JEDEC: MS-026; ComponentLink1Description: Manufacturer Link; ComponentLink1URL: http://www-us2.semiconductors.philips.com/; ComponentLink2Description: Datasheet; ComponentLink2URL: http://www.semiconductors.philips.com/acrobat/datasheets/8XC554_5.pdf
footprint SOT314-2_N (Thin QFP, 64-Leads, Body 10x10mm, Pitch 0.5mm, IPC Medium Density)
footprint SOT314-2_L (Thin QFP, 64-Leads, Body 10x10mm, Pitch 0.5mm, IPC High Density)
footprint SOT314-2_M (Thin QFP, 64-Leads, Body 10x10mm, Pitch 0.5mm, IPC Low Density)
pins: 1 AVDD (power), 2 P5.6/ADC6 (in), 3 P5.5/ADC5 (in), 4 P5.4/ADC4 (in), 5 P5.3/ADC3 (in), 6 P5.2/ADC2 (in), 7 P5.1/ADC1 (in), 8 P5.0/ADC0 (in), 9 VDD (power), 10 STADC (in), 11 ~{PWM}0 (out), 12 ~{PWM}1 (out), 13 ~{EW} (in), 14 P4.0/CMSR0 (io), 15 P4.1/CMSR1 (io), 16 P4.2/CMSR2 (io), 17 P4.3/CMSR3 (io), 18 P4.4/CMSR4 (io), 19 P4.5/CMSR5 (io), 20 P4.6/CMT0 (io), 21 P4.7/CMT1 (io), 22 RST (io), 23 P1.0/CT0I (io), 24 P1.1/CT1I (io), 25 P1.2/CT2I (io), 26 P1.3/CT3I (io), 27 P1.4/T2 (io), 28 P1.5/RT2 (io), 29 P1.6/SCL (io), 30 P1.7/SDA (io), 31 P3.0/RxD (io), 32 P3.1/TxD (io), 33 P3.2/~{INT}0 (io), 34 P3.3/~{INT}1 (io), 35 P3.4/T0 (io), 36 P3.5/T1 (io), 37 P3.6/~{WR} (io), 38 P3.7/~{RD} (io), 39 XTAL2 (out), 40 XTAL1 (in), 41 VSS (power), 42 VSS (power), 43 P2.0/A08 (io), 44 P2.1/A09 (io), 45 P2.2/A10 (io), 46 P2.3/A11 (io), 47 P2.4/A12 (io), 48 P2.5/A13 (io), 49 P2.6/A14 (io), 50 P2.7/A15 (io), 51 ~{PSEN} (out), 52 ALE/~{PROG} (io), 53 ~{EA}/VPP (in), 54 P0.7/AD7 (io), 55 P0.6/AD6 (io), 56 P0.5/AD5 (io), 57 P0.4/AD4 (io), 58 P0.3/AD3 (io), 59 P0.2/AD2 (io), 60 P0.1/AD1 (io), 61 P0.0/AD0 (io), 62 AVREF- (in), 63 AVREF+ (in), 64 AVSS (power)

## P80C554SFBD
designator U?
80C51 8-Bit Microcontroller - 6-Clock Operation, 16K/512 ROMless, 7-channel 10-bit A/D, I²C, PWM, Capture/Compare, High I/O; Published: 21-May-2003; LatestRevisionDate: 13-Apr-2006; LatestRevisionNote: IPC-7351 Footprint Added.; DatasheetVersion: 28-Jan-2003; PackageVersion: Jan-2003; PackageReference: SOT314-2; Publisher: Altium Limited; PackageDescription: 64-Pin Thin Quad Flat Pack 0.5 mm Pitch; Code_JEDEC: MS-026; ComponentLink1Description: Manufacturer Link; ComponentLink1URL: http://www-us2.semiconductors.philips.com/; ComponentLink2Description: Datasheet; ComponentLink2URL: http://www.semiconductors.philips.com/acrobat/datasheets/8XC554_5.pdf
footprint SOT314-2_N (Thin QFP, 64-Leads, Body 10x10mm, Pitch 0.5mm, IPC Medium Density)
footprint SOT314-2_L (Thin QFP, 64-Leads, Body 10x10mm, Pitch 0.5mm, IPC High Density)
footprint SOT314-2_M (Thin QFP, 64-Leads, Body 10x10mm, Pitch 0.5mm, IPC Low Density)
pins: 1 AVDD (power), 2 P5.6/ADC6 (in), 3 P5.5/ADC5 (in), 4 P5.4/ADC4 (in), 5 P5.3/ADC3 (in), 6 P5.2/ADC2 (in), 7 P5.1/ADC1 (in), 8 P5.0/ADC0 (in), 9 VDD (power), 10 STADC (in), 11 ~{PWM}0 (out), 12 ~{PWM}1 (out), 13 ~{EW} (in), 14 P4.0/CMSR0 (io), 15 P4.1/CMSR1 (io), 16 P4.2/CMSR2 (io), 17 P4.3/CMSR3 (io), 18 P4.4/CMSR4 (io), 19 P4.5/CMSR5 (io), 20 P4.6/CMT0 (io), 21 P4.7/CMT1 (io), 22 RST (io), 23 P1.0/CT0I (io), 24 P1.1/CT1I (io), 25 P1.2/CT2I (io), 26 P1.3/CT3I (io), 27 P1.4/T2 (io), 28 P1.5/RT2 (io), 29 P1.6/SCL (io), 30 P1.7/SDA (io), 31 P3.0/RxD (io), 32 P3.1/TxD (io), 33 P3.2/~{INT}0 (io), 34 P3.3/~{INT}1 (io), 35 P3.4/T0 (io), 36 P3.5/T1 (io), 37 P3.6/~{WR} (io), 38 P3.7/~{RD} (io), 39 XTAL2 (out), 40 XTAL1 (in), 41 VSS (power), 42 VSS (power), 43 P2.0/A08 (io), 44 P2.1/A09 (io), 45 P2.2/A10 (io), 46 P2.3/A11 (io), 47 P2.4/A12 (io), 48 P2.5/A13 (io), 49 P2.6/A14 (io), 50 P2.7/A15 (io), 51 ~{PSEN} (out), 52 ALE/~{PROG} (io), 53 ~{EA}/VPP (in), 54 P0.7/AD7 (io), 55 P0.6/AD6 (io), 56 P0.5/AD5 (io), 57 P0.4/AD4 (io), 58 P0.3/AD3 (io), 59 P0.2/AD2 (io), 60 P0.1/AD1 (io), 61 P0.0/AD0 (io), 62 AVREF- (in), 63 AVREF+ (in), 64 AVSS (power)

## P80C557E4EBB
designator U?
Single-Chip 8-Bit Microcontroller, ROMless Type; Published: 21-May-2003; LatestRevisionDate: 13-Apr-2006; LatestRevisionNote: IPC-7351 Footprint Added.; DatasheetVersion: 2-Mar-1999; PackageVersion: Mar-1999; PackageReference: SOT318-1; Publisher: Altium Limited; PackageDescription: 80-Pin Quad Flat Pack Rectangular 0.8 mm Pitch; ComponentLink1Description: Manufacturer Link; ComponentLink1URL: http://www-us2.semiconductors.philips.com/
footprint SOT318-1_N (QFP, 80-Leads, Body 20x14mm, Pitch 0.8mm, IPC Medium Density)
footprint SOT318-1_L (QFP, 80-Leads, Body 20x14mm, Pitch 0.8mm, IPC High Density)
footprint SOT318-1_M (QFP, 80-Leads, Body 20x14mm, Pitch 0.8mm, IPC Low Density)
pins: 1 AVREF- (in), 2 AVREF+ (in), 3 AVSS1 (power), 4 AVDD1 (power), 5 P5.7/ADC7 (in), 6 P5.6/ADC6 (in), 7 P5.5/ADC5 (in), 8 P5.4/ADC4 (in), 9 P5.3/ADC3 (in), 10 P5.2/ADC2 (in), 11 P5.1/ADC1 (in), 12 P5.0/ADC0 (in), 13 VSS1 (power), 14 VDD1 (power), 15 ADEXS (in), 16 ~{PWM}0 (out), 17 ~{PWM}1 (out), 18 ~{EW} (in), 19 P4.0/CMSR0 (io), 20 P4.1/CMSR1 (io), 21 P4.2/CMSR2 (io), 22 P4.3/CMSR3 (io), 23 RSTOUT (out), 24 P4.4/CSMR4 (io), 25 P4.5/CMSR5 (io), 26 P4.6/CMT0 (io), 27 P4.7/CMT1 (io), 28 VDD2 (power), 29 VSS2 (power), 30 RSTIN (in), 31 P1.0/CT0I/INT2 (io), 32 P1.1/CT1I/INT3 (io), 33 P1.2/CT2I/INT4 (io), 34 P1.3/CT3I/INT5 (io), 35 P1.4/T2 (io), 36 P1.5/RT2 (io), 37 P1.6 (io), 38 P1.7 (io), 39 SCL (io), 40 SDA (io), 41 P3.0/RXD (io), 42 P3.1/TXD (io), 43 P3.2/~{INT}0 (io), 44 P3.3/~{INT}1 (io), 45 P3.4/T0 (io), 46 P3.5/T1 (io), 47 P3.6/~{WR} (io), 48 P3.7/~{RD} (io), 49 NC, 50 NC, 51 XTAL2 (out), 52 XTAL1 (in), 53 VDD3 (power), 54 VSS3 (power), 55 P2.0/A8 (io), 56 P2.1/A9 (io), 57 P2.2/A10 (io), 58 P2.3/A11 (io), 59 P2.4/A12 (io), 60 P2.5/A13 (io), 61 P2.6/A14 (io), 62 P2.7/A15 (io), 63 ~{PSEN} (out), 64 ALE (out), 65 ~{EA} (in), 66 VDD4 (power), 67 VSS4 (power), 68 P0.7/AD7 (io), 69 P0.6/AD6 (io), 70 P0.5/AD5 (io), 71 P0.4/AD4 (io), 72 P0.3/AD3 (io), 73 P0.2/AD2 (io), 74 P0.1/AD1 (io), 75 P0.0/AD0 (io), 76 AVDD2 (power), 77 AVSS2 (power), 78 XTAL3 (out), 79 XTAL4 (in), 80 SELXTAL1 (in)

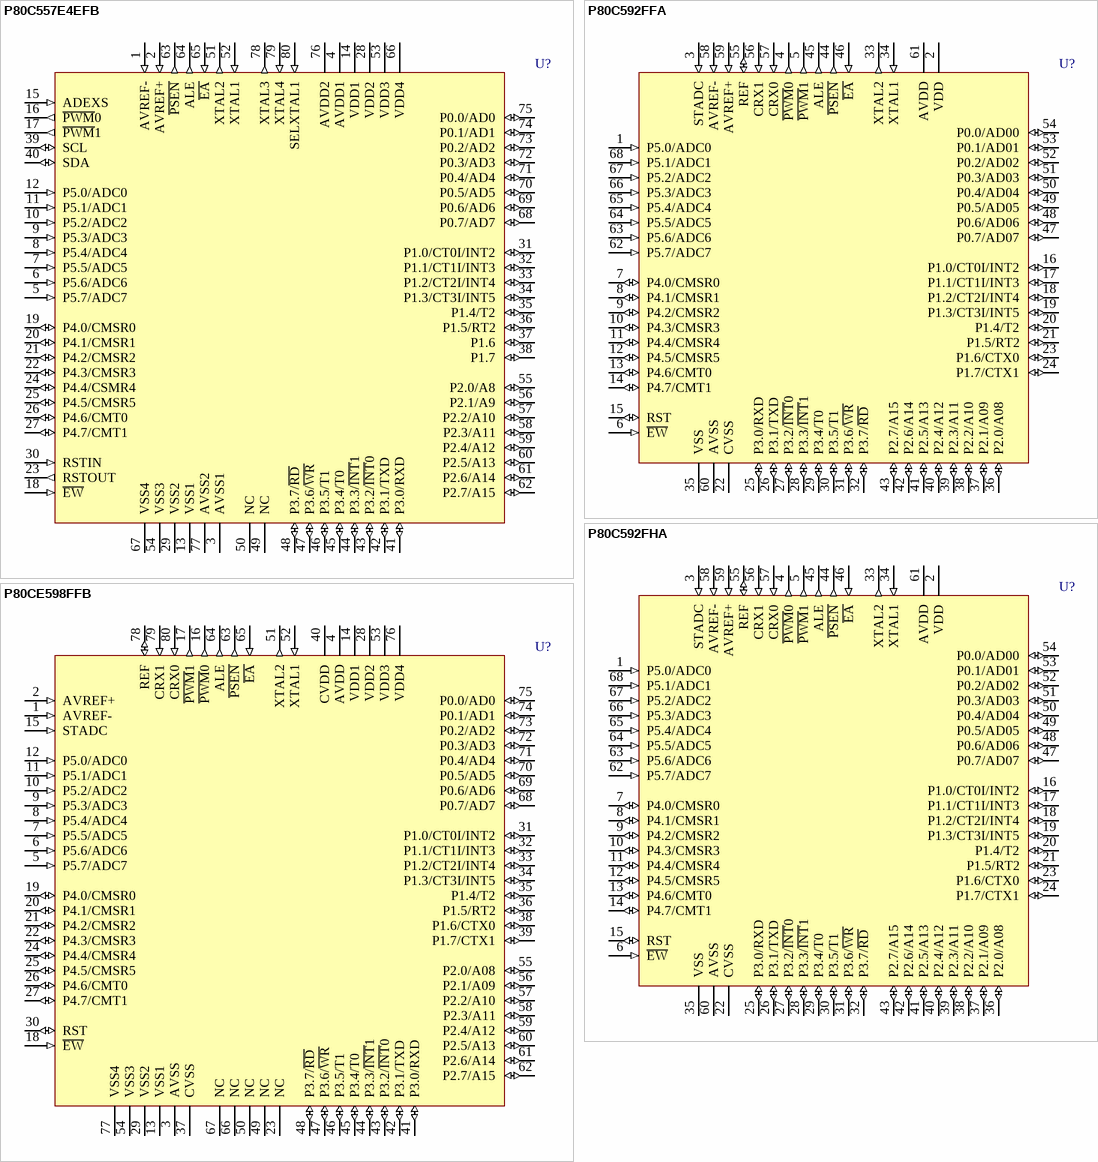
[diagram p11: symbols P80C557E4EFB to P80CE598FFB]

## P80C557E4EFB
designator U?
Single-Chip 8-Bit Microcontroller, ROMless Type; Published: 21-May-2003; LatestRevisionDate: 13-Apr-2006; LatestRevisionNote: IPC-7351 Footprint Added.; DatasheetVersion: 2-Mar-1999; PackageVersion: Mar-1999; PackageReference: SOT318-1; Publisher: Altium Limited; PackageDescription: 80-Pin Quad Flat Pack Rectangular 0.8 mm Pitch; ComponentLink1Description: Manufacturer Link; ComponentLink1URL: http://www-us2.semiconductors.philips.com/
footprint SOT318-1_N (QFP, 80-Leads, Body 20x14mm, Pitch 0.8mm, IPC Medium Density)
footprint SOT318-1_L (QFP, 80-Leads, Body 20x14mm, Pitch 0.8mm, IPC High Density)
footprint SOT318-1_M (QFP, 80-Leads, Body 20x14mm, Pitch 0.8mm, IPC Low Density)
pins: 1 AVREF- (in), 2 AVREF+ (in), 3 AVSS1 (power), 4 AVDD1 (power), 5 P5.7/ADC7 (in), 6 P5.6/ADC6 (in), 7 P5.5/ADC5 (in), 8 P5.4/ADC4 (in), 9 P5.3/ADC3 (in), 10 P5.2/ADC2 (in), 11 P5.1/ADC1 (in), 12 P5.0/ADC0 (in), 13 VSS1 (power), 14 VDD1 (power), 15 ADEXS (in), 16 ~{PWM}0 (out), 17 ~{PWM}1 (out), 18 ~{EW} (in), 19 P4.0/CMSR0 (io), 20 P4.1/CMSR1 (io), 21 P4.2/CMSR2 (io), 22 P4.3/CMSR3 (io), 23 RSTOUT (out), 24 P4.4/CSMR4 (io), 25 P4.5/CMSR5 (io), 26 P4.6/CMT0 (io), 27 P4.7/CMT1 (io), 28 VDD2 (power), 29 VSS2 (power), 30 RSTIN (in), 31 P1.0/CT0I/INT2 (io), 32 P1.1/CT1I/INT3 (io), 33 P1.2/CT2I/INT4 (io), 34 P1.3/CT3I/INT5 (io), 35 P1.4/T2 (io), 36 P1.5/RT2 (io), 37 P1.6 (io), 38 P1.7 (io), 39 SCL (io), 40 SDA (io), 41 P3.0/RXD (io), 42 P3.1/TXD (io), 43 P3.2/~{INT}0 (io), 44 P3.3/~{INT}1 (io), 45 P3.4/T0 (io), 46 P3.5/T1 (io), 47 P3.6/~{WR} (io), 48 P3.7/~{RD} (io), 49 NC, 50 NC, 51 XTAL2 (out), 52 XTAL1 (in), 53 VDD3 (power), 54 VSS3 (power), 55 P2.0/A8 (io), 56 P2.1/A9 (io), 57 P2.2/A10 (io), 58 P2.3/A11 (io), 59 P2.4/A12 (io), 60 P2.5/A13 (io), 61 P2.6/A14 (io), 62 P2.7/A15 (io), 63 ~{PSEN} (out), 64 ALE (out), 65 ~{EA} (in), 66 VDD4 (power), 67 VSS4 (power), 68 P0.7/AD7 (io), 69 P0.6/AD6 (io), 70 P0.5/AD5 (io), 71 P0.4/AD4 (io), 72 P0.3/AD3 (io), 73 P0.2/AD2 (io), 74 P0.1/AD1 (io), 75 P0.0/AD0 (io), 76 AVDD2 (power), 77 AVSS2 (power), 78 XTAL3 (out), 79 XTAL4 (in), 80 SELXTAL1 (in)

## P80C592FFA
designator U?
8-Bit Microcontroller with On-Chip CAN, ROMless; Published: 21-May-2003; LatestRevisionDate: 13-Apr-2006; LatestRevisionNote: IPC-7351 Footprint Added.; DatasheetVersion: 27-Jun-1996; PackageVersion: Sep-2002; PackageReference: SOT188-2; Publisher: Altium Limited; PackageDescription: 68-Pin Leaded Chip Carrier 1.27 mm Pitch; Code_JEDEC: MS-018; Code_IPC: PLCC-68; ComponentLink1Description: Manufacturer Link; ComponentLink1URL: http://www-us2.semiconductors.philips.com/; ComponentLink2Description: Datasheet; ComponentLink2URL: http://www.semiconductors.philips.com/acrobat/datasheets/P8XC592_3.pdf
footprint SOT188-2_N (Leaded Chip Carrier, 68-Leads, Body 24.2x24.2mm, Pitch 1.27mm, IPC Medium Density)
footprint SOT188-2_L (Leaded Chip Carrier, 68-Leads, Body 24.2x24.2mm, Pitch 1.27mm, IPC High Density)
footprint SOT188-2_M (Leaded Chip Carrier, 68-Leads, Body 24.2x24.2mm, Pitch 1.27mm, IPC Low Density)
pins: 1 P5.0/ADC0 (in), 2 VDD (power), 3 STADC (in), 4 ~{PWM}0 (out), 5 ~{PWM}1 (out), 6 ~{EW} (in), 7 P4.0/CMSR0 (io), 8 P4.1/CMSR1 (io), 9 P4.2/CMSR2 (io), 10 P4.3/CMSR3 (io), 11 P4.4/CMSR4 (io), 12 P4.5/CMSR5 (io), 13 P4.6/CMT0 (io), 14 P4.7/CMT1 (io), 15 RST (io), 16 P1.0/CT0I/INT2 (io), 17 P1.1/CT1I/INT3 (io), 18 P1.2/CT2I/INT4 (io), 19 P1.3/CT3I/INT5 (io), 20 P1.4/T2 (io), 21 P1.5/RT2 (io), 22 CVSS (power), 23 P1.6/CTX0 (io), 24 P1.7/CTX1 (io), 25 P3.0/RXD (io), 26 P3.1/TXD (io), 27 P3.2/~{INT}0 (io), 28 P3.3/~{INT}1 (io), 29 P3.4/T0 (io), 30 P3.5/T1 (io), 31 P3.6/~{WR} (io), 32 P3.7/~{RD} (io), 33 XTAL2 (out), 34 XTAL1 (in), 35 VSS (power), 36 P2.0/A08 (io), 37 P2.1/A09 (io), 38 P2.2/A10 (io), 39 P2.3/A11 (io), 40 P2.4/A12 (io), 41 P2.5/A13 (io), 42 P2.6/A14 (io), 43 P2.7/A15 (io), 44 ~{PSEN} (out), 45 ALE (out), 46 ~{EA} (in), 47 P0.7/AD07 (io), 48 P0.6/AD06 (io), 49 P0.5/AD05 (io), 50 P0.4/AD04 (io), 51 P0.3/AD03 (io), 52 P0.2/AD02 (io), 53 P0.1/AD01 (io), 54 P0.0/AD00 (io), 55 REF (io), 56 CRX1 (in), 57 CRX0 (in), 58 AVREF- (in), 59 AVREF+ (in), 60 AVSS (power), 61 AVDD (power), 62 P5.7/ADC7 (in), 63 P5.6/ADC6 (in), 64 P5.5/ADC5 (in), 65 P5.4/ADC4 (in), 66 P5.3/ADC3 (in), 67 P5.2/ADC2 (in), 68 P5.1/ADC1 (in)

## P80C592FHA
designator U?
8-Bit Microcontroller with On-Chip CAN, ROMless; Published: 21-May-2003; LatestRevisionDate: 13-Apr-2006; LatestRevisionNote: IPC-7351 Footprint Added.; DatasheetVersion: 27-Jun-1996; PackageVersion: Sep-2002; PackageReference: SOT188-2; Publisher: Altium Limited; PackageDescription: 68-Pin Leaded Chip Carrier 1.27 mm Pitch; Code_JEDEC: MS-018; Code_IPC: PLCC-68; ComponentLink1Description: Manufacturer Link; ComponentLink1URL: http://www-us2.semiconductors.philips.com/; ComponentLink2Description: Datasheet; ComponentLink2URL: http://www.semiconductors.philips.com/acrobat/datasheets/P8XC592_3.pdf
footprint SOT188-2_N (Leaded Chip Carrier, 68-Leads, Body 24.2x24.2mm, Pitch 1.27mm, IPC Medium Density)
footprint SOT188-2_L (Leaded Chip Carrier, 68-Leads, Body 24.2x24.2mm, Pitch 1.27mm, IPC High Density)
footprint SOT188-2_M (Leaded Chip Carrier, 68-Leads, Body 24.2x24.2mm, Pitch 1.27mm, IPC Low Density)
pins: 1 P5.0/ADC0 (in), 2 VDD (power), 3 STADC (in), 4 ~{PWM}0 (out), 5 ~{PWM}1 (out), 6 ~{EW} (in), 7 P4.0/CMSR0 (io), 8 P4.1/CMSR1 (io), 9 P4.2/CMSR2 (io), 10 P4.3/CMSR3 (io), 11 P4.4/CMSR4 (io), 12 P4.5/CMSR5 (io), 13 P4.6/CMT0 (io), 14 P4.7/CMT1 (io), 15 RST (io), 16 P1.0/CT0I/INT2 (io), 17 P1.1/CT1I/INT3 (io), 18 P1.2/CT2I/INT4 (io), 19 P1.3/CT3I/INT5 (io), 20 P1.4/T2 (io), 21 P1.5/RT2 (io), 22 CVSS (power), 23 P1.6/CTX0 (io), 24 P1.7/CTX1 (io), 25 P3.0/RXD (io), 26 P3.1/TXD (io), 27 P3.2/~{INT}0 (io), 28 P3.3/~{INT}1 (io), 29 P3.4/T0 (io), 30 P3.5/T1 (io), 31 P3.6/~{WR} (io), 32 P3.7/~{RD} (io), 33 XTAL2 (out), 34 XTAL1 (in), 35 VSS (power), 36 P2.0/A08 (io), 37 P2.1/A09 (io), 38 P2.2/A10 (io), 39 P2.3/A11 (io), 40 P2.4/A12 (io), 41 P2.5/A13 (io), 42 P2.6/A14 (io), 43 P2.7/A15 (io), 44 ~{PSEN} (out), 45 ALE (out), 46 ~{EA} (in), 47 P0.7/AD07 (io), 48 P0.6/AD06 (io), 49 P0.5/AD05 (io), 50 P0.4/AD04 (io), 51 P0.3/AD03 (io), 52 P0.2/AD02 (io), 53 P0.1/AD01 (io), 54 P0.0/AD00 (io), 55 REF (io), 56 CRX1 (in), 57 CRX0 (in), 58 AVREF- (in), 59 AVREF+ (in), 60 AVSS (power), 61 AVDD (power), 62 P5.7/ADC7 (in), 63 P5.6/ADC6 (in), 64 P5.5/ADC5 (in), 65 P5.4/ADC4 (in), 66 P5.3/ADC3 (in), 67 P5.2/ADC2 (in), 68 P5.1/ADC1 (in)

## P80CE598FFB
designator U?
8-Bit Microcontroller with On-Chip CAN, ROMless; Published: 21-May-2003; LatestRevisionDate: 13-Apr-2006; LatestRevisionNote: IPC-7351 Footprint Added.; DatasheetVersion: 27-Jun-1996; PackageVersion: Mar-1999; PackageReference: SOT318-1; Publisher: Altium Limited; PackageDescription: 80-Pin Quad Flat Pack Rectangular 0.8 mm Pitch; ComponentLink1Description: Manufacturer Link; ComponentLink1URL: http://www-us2.semiconductors.philips.com/; ComponentLink2Description: Datasheet; ComponentLink2URL: http://www.semiconductors.philips.com/acrobat/datasheets/P8XCE598_4.pdf
footprint SOT318-1_N (QFP, 80-Leads, Body 20x14mm, Pitch 0.8mm, IPC Medium Density)
footprint SOT318-1_L (QFP, 80-Leads, Body 20x14mm, Pitch 0.8mm, IPC High Density)
footprint SOT318-1_M (QFP, 80-Leads, Body 20x14mm, Pitch 0.8mm, IPC Low Density)
pins: 1 AVREF- (in), 2 AVREF+ (in), 3 AVSS (power), 4 AVDD (power), 5 P5.7/ADC7 (in), 6 P5.6/ADC6 (in), 7 P5.5/ADC5 (in), 8 P5.4/ADC4 (in), 9 P5.3/ADC3 (in), 10 P5.2/ADC2 (in), 11 P5.1/ADC1 (in), 12 P5.0/ADC0 (in), 13 VSS1 (power), 14 VDD1 (power), 15 STADC (in), 16 ~{PWM}0 (out), 17 ~{PWM}1 (out), 18 ~{EW} (in), 19 P4.0/CMSR0 (io), 20 P4.1/CMSR1 (io), 21 P4.2/CMSR2 (io), 22 P4.3/CMSR3 (io), 23 NC, 24 P4.4/CMSR4 (io), 25 P4.5/CMSR5 (io), 26 P4.6/CMT0 (io), 27 P4.7/CMT1 (io), 28 VDD2 (power), 29 VSS2 (power), 30 RST (io), 31 P1.0/CT0I/INT2 (io), 32 P1.1/CT1I/INT3 (io), 33 P1.2/CT2I/INT4 (io), 34 P1.3/CT3I/INT5 (io), 35 P1.4/T2 (io), 36 P1.5/RT2 (io), 37 CVSS (power), 38 P1.6/CTX0 (io), 39 P1.7/CTX1 (io), 40 CVDD (power), 41 P3.0/RXD (io), 42 P3.1/TXD (io), 43 P3.2/~{INT}0 (io), 44 P3.3/~{INT}1 (io), 45 P3.4/T0 (io), 46 P3.5/T1 (io), 47 P3.6/~{WR} (io), 48 P3.7/~{RD} (io), 49 NC, 50 NC, 51 XTAL2 (out), 52 XTAL1 (in), 53 VDD3 (power), 54 VSS3 (power), 55 P2.0/A08 (io), 56 P2.1/A09 (io), 57 P2.2/A10 (io), 58 P2.3/A11 (io), 59 P2.4/A12 (io), 60 P2.5/A13 (io), 61 P2.6/A14 (io), 62 P2.7/A15 (io), 63 ~{PSEN} (out), 64 ALE (out), 65 ~{EA} (in), 66 NC, 67 NC, 68 P0.7/AD7 (io), 69 P0.6/AD6 (io), 70 P0.5/AD5 (io), 71 P0.4/AD4 (io), 72 P0.3/AD3 (io), 73 P0.2/AD2 (io), 74 P0.1/AD1 (io), 75 P0.0/AD0 (io), 76 VDD4 (power), 77 VSS4 (power), 78 REF (io), 79 CRX1 (in), 80 CRX0 (in)

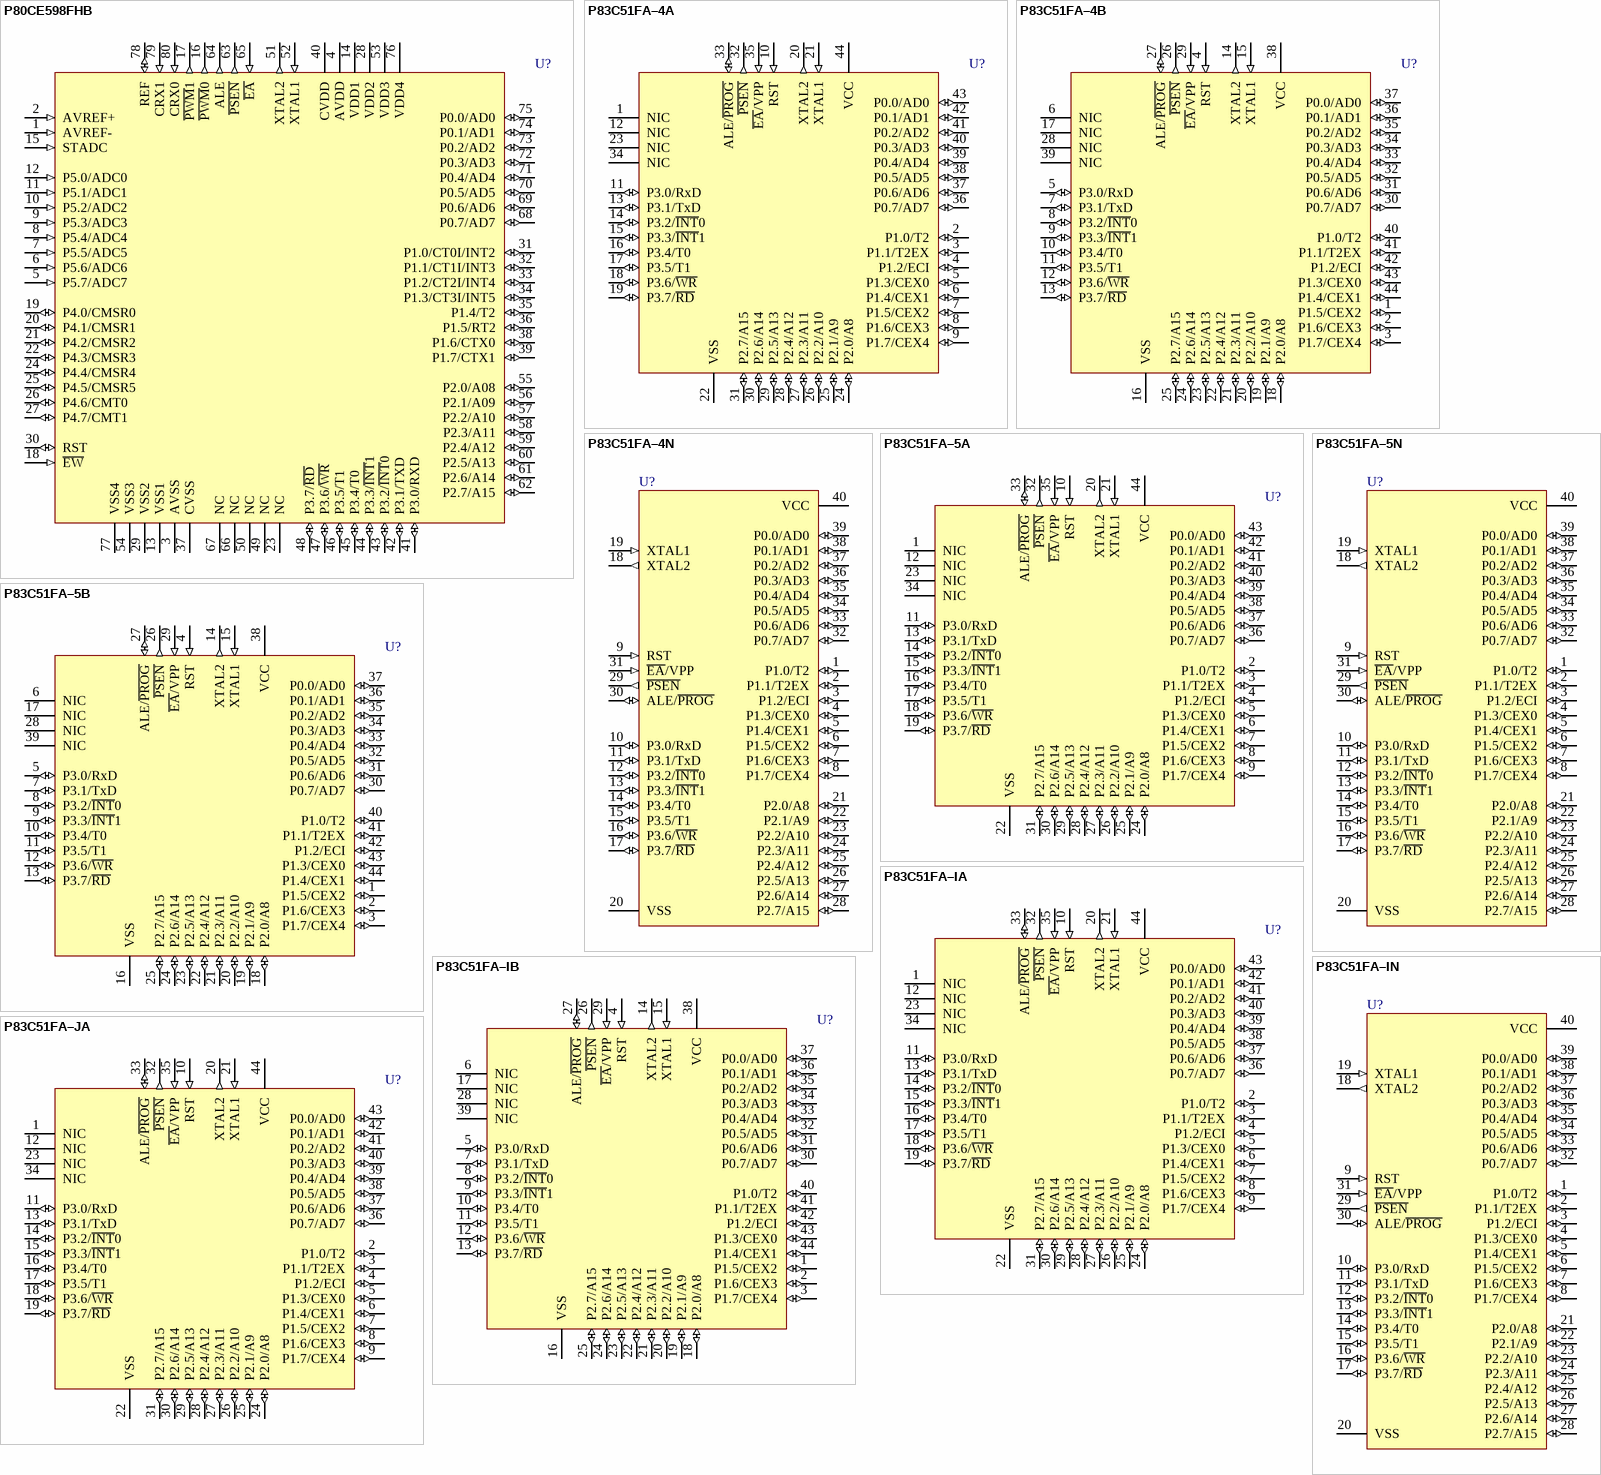
[diagram p12: symbols P80CE598FHB to P83C51FA–JA]

## P80CE598FHB
designator U?
8-Bit Microcontroller with On-Chip CAN, ROMless; Published: 21-May-2003; LatestRevisionDate: 13-Apr-2006; LatestRevisionNote: IPC-7351 Footprint Added.; DatasheetVersion: 27-Jun-1996; PackageVersion: Mar-1999; PackageReference: SOT318-1; Publisher: Altium Limited; PackageDescription: 80-Pin Quad Flat Pack Rectangular 0.8 mm Pitch; ComponentLink1Description: Manufacturer Link; ComponentLink1URL: http://www-us2.semiconductors.philips.com/; ComponentLink2Description: Datasheet; ComponentLink2URL: http://www.semiconductors.philips.com/acrobat/datasheets/P8XCE598_4.pdf
footprint SOT318-1_N (QFP, 80-Leads, Body 20x14mm, Pitch 0.8mm, IPC Medium Density)
footprint SOT318-1_L (QFP, 80-Leads, Body 20x14mm, Pitch 0.8mm, IPC High Density)
footprint SOT318-1_M (QFP, 80-Leads, Body 20x14mm, Pitch 0.8mm, IPC Low Density)
pins: 1 AVREF- (in), 2 AVREF+ (in), 3 AVSS (power), 4 AVDD (power), 5 P5.7/ADC7 (in), 6 P5.6/ADC6 (in), 7 P5.5/ADC5 (in), 8 P5.4/ADC4 (in), 9 P5.3/ADC3 (in), 10 P5.2/ADC2 (in), 11 P5.1/ADC1 (in), 12 P5.0/ADC0 (in), 13 VSS1 (power), 14 VDD1 (power), 15 STADC (in), 16 ~{PWM}0 (out), 17 ~{PWM}1 (out), 18 ~{EW} (in), 19 P4.0/CMSR0 (io), 20 P4.1/CMSR1 (io), 21 P4.2/CMSR2 (io), 22 P4.3/CMSR3 (io), 23 NC, 24 P4.4/CMSR4 (io), 25 P4.5/CMSR5 (io), 26 P4.6/CMT0 (io), 27 P4.7/CMT1 (io), 28 VDD2 (power), 29 VSS2 (power), 30 RST (io), 31 P1.0/CT0I/INT2 (io), 32 P1.1/CT1I/INT3 (io), 33 P1.2/CT2I/INT4 (io), 34 P1.3/CT3I/INT5 (io), 35 P1.4/T2 (io), 36 P1.5/RT2 (io), 37 CVSS (power), 38 P1.6/CTX0 (io), 39 P1.7/CTX1 (io), 40 CVDD (power), 41 P3.0/RXD (io), 42 P3.1/TXD (io), 43 P3.2/~{INT}0 (io), 44 P3.3/~{INT}1 (io), 45 P3.4/T0 (io), 46 P3.5/T1 (io), 47 P3.6/~{WR} (io), 48 P3.7/~{RD} (io), 49 NC, 50 NC, 51 XTAL2 (out), 52 XTAL1 (in), 53 VDD3 (power), 54 VSS3 (power), 55 P2.0/A08 (io), 56 P2.1/A09 (io), 57 P2.2/A10 (io), 58 P2.3/A11 (io), 59 P2.4/A12 (io), 60 P2.5/A13 (io), 61 P2.6/A14 (io), 62 P2.7/A15 (io), 63 ~{PSEN} (out), 64 ALE (out), 65 ~{EA} (in), 66 NC, 67 NC, 68 P0.7/AD7 (io), 69 P0.6/AD6 (io), 70 P0.5/AD5 (io), 71 P0.4/AD4 (io), 72 P0.3/AD3 (io), 73 P0.2/AD2 (io), 74 P0.1/AD1 (io), 75 P0.0/AD0 (io), 76 VDD4 (power), 77 VSS4 (power), 78 REF (io), 79 CRX1 (in), 80 CRX0 (in)

## P83C51FA–4A
designator U?
80C51 8-Bit Microcontroller Family: 256 B RAM, 8 kB ROM, 2.7V-5.5V, Low Power, High Speed; Published: 21-May-2003; LatestRevisionDate: 13-Apr-2006; LatestRevisionNote: IPC-7351 Footprint Added.; DatasheetVersion: 7-Aug-2000; PackageVersion: Jan-2000; PackageReference: SOT187-2; Publisher: Altium Limited; PackageDescription: 44-Pin Leaded Chip Carrier 1.27 mm Pitch; Code_JEDEC: MO-047AC; Code_IPC: PLCC-44; ComponentLink1Description: Manufacturer Link; ComponentLink1URL: http://www-us2.semiconductors.philips.com/; ComponentLink2Description: Datasheet; ComponentLink2URL: http://www.semiconductors.philips.com/acrobat/datasheets/89C51_89C52_89C54_89C58_10.pdf; ComponentLink3Description: Discontinuation Notice; ComponentLink3URL: http://www.semiconductors.philips.com/pip/old/89c51_89c52_89c54_89c58_10.html
footprint SOT187-2_N (Leaded Chip Carrier, 44-Leads, Body 16.6x16.6mm, Pitch 1.27mm, IPC Medium Density)
footprint SOT187-2_L (Leaded Chip Carrier, 44-Leads, Body 16.6x16.6mm, Pitch 1.27mm, IPC High Density)
footprint SOT187-2_M (Leaded Chip Carrier, 44-Leads, Body 16.6x16.6mm, Pitch 1.27mm, IPC Low Density)
pins: 1 NIC, 2 P1.0/T2 (io), 3 P1.1/T2EX (io), 4 P1.2/ECI (io), 5 P1.3/CEX0 (io), 6 P1.4/CEX1 (io), 7 P1.5/CEX2 (io), 8 P1.6/CEX3 (io), 9 P1.7/CEX4 (io), 10 RST (in), 11 P3.0/RxD (io), 12 NIC, 13 P3.1/TxD (io), 14 P3.2/~{INT}0 (io), 15 P3.3/~{INT}1 (io), 16 P3.4/T0 (io), 17 P3.5/T1 (io), 18 P3.6/~{WR} (io), 19 P3.7/~{RD} (io), 20 XTAL2 (out), 21 XTAL1 (in), 22 VSS (power), 23 NIC, 24 P2.0/A8 (io), 25 P2.1/A9 (io), 26 P2.2/A10 (io), 27 P2.3/A11 (io), 28 P2.4/A12 (io), 29 P2.5/A13 (io), 30 P2.6/A14 (io), 31 P2.7/A15 (io), 32 ~{PSEN} (out), 33 ALE/~{PROG} (io), 34 NIC, 35 ~{EA}/VPP (in), 36 P0.7/AD7 (io), 37 P0.6/AD6 (io), 38 P0.5/AD5 (io), 39 P0.4/AD4 (io), 40 P0.3/AD3 (io), 41 P0.2/AD2 (io), 42 P0.1/AD1 (io), 43 P0.0/AD0 (io), 44 VCC (power)

## P83C51FA–4B
designator U?
80C51 8-Bit Microcontroller Family: 256 B RAM, 8 kB ROM, 2.7V-5.5V, Low Power, High Speed; Published: 21-May-2003; LatestRevisionDate: 13-Apr-2006; LatestRevisionNote: IPC-7351 Footprint Added.; DatasheetVersion: 7-Aug-2000; PackageVersion: Aug-2000; PackageReference: SOT307-2; Publisher: Altium Limited; PackageDescription: 44-Pin Quad Flat Pack 0.8 mm Pitch; ComponentLink1Description: Manufacturer Link; ComponentLink1URL: http://www-us2.semiconductors.philips.com/; ComponentLink2Description: Datasheet; ComponentLink2URL: http://www.semiconductors.philips.com/acrobat/datasheets/89C51_89C52_89C54_89C58_10.pdf; ComponentLink3Description: Discontinuation Notice; ComponentLink3URL: http://www.semiconductors.philips.com/pip/old/89c51_89c52_89c54_89c58_10.html
footprint SOT307-2_N (QFP, 44-Leads, Body 10x10mm, Pitch 0.8mm, IPC Medium Density)
footprint SOT307-2_L (QFP, 44-Leads, Body 10x10mm, Pitch 0.8mm, IPC High Density)
footprint SOT307-2_M (QFP, 44-Leads, Body 10x10mm, Pitch 0.8mm, IPC Low Density)
pins: 1 P1.5/CEX2 (io), 2 P1.6/CEX3 (io), 3 P1.7/CEX4 (io), 4 RST (in), 5 P3.0/RxD (io), 6 NIC, 7 P3.1/TxD (io), 8 P3.2/~{INT}0 (io), 9 P3.3/~{INT}1 (io), 10 P3.4/T0 (io), 11 P3.5/T1 (io), 12 P3.6/~{WR} (io), 13 P3.7/~{RD} (io), 14 XTAL2 (out), 15 XTAL1 (in), 16 VSS (power), 17 NIC, 18 P2.0/A8 (io), 19 P2.1/A9 (io), 20 P2.2/A10 (io), 21 P2.3/A11 (io), 22 P2.4/A12 (io), 23 P2.5/A13 (io), 24 P2.6/A14 (io), 25 P2.7/A15 (io), 26 ~{PSEN} (out), 27 ALE/~{PROG} (io), 28 NIC, 29 ~{EA}/VPP (in), 30 P0.7/AD7 (io), 31 P0.6/AD6 (io), 32 P0.5/AD5 (io), 33 P0.4/AD4 (io), 34 P0.3/AD3 (io), 35 P0.2/AD2 (io), 36 P0.1/AD1 (io), 37 P0.0/AD0 (io), 38 VCC (power), 39 NIC, 40 P1.0/T2 (io), 41 P1.1/T2EX (io), 42 P1.2/ECI (io), 43 P1.3/CEX0 (io), 44 P1.4/CEX1 (io)

## P83C51FA–4N
designator U?
80C51 8-Bit Microcontroller Family: 256 B RAM, 8 kB ROM, 2.7V-5.5V, Low Power, High Speed; Published: 21-May-2003; DatasheetVersion: 7-Aug-2000; PackageVersion: Aug-2000; PackageReference: SOT129-1; Publisher: Altium Limited; PackageDescription: DIP, Plastic; 40 Leads; Row Spacing 15.24 mm; Pitch 2.54 mm; Code_JEDEC: MO-015; ComponentLink1Description: Manufacturer Link; ComponentLink1URL: http://www-us2.semiconductors.philips.com/; ComponentLink2Description: Datasheet; ComponentLink2URL: http://www.semiconductors.philips.com/acrobat/datasheets/89C51_89C52_89C54_89C58_10.pdf; ComponentLink3Description: Discontinuation Notice; ComponentLink3URL: http://www.semiconductors.philips.com/pip/old/89c51_89c52_89c54_89c58_10.html
footprint SOT129-1 (DIP, Plastic; 40 Leads; Row Spacing 15.24 mm; Pitch 2.54 mm)
pins: 1 P1.0/T2 (io), 2 P1.1/T2EX (io), 3 P1.2/ECI (io), 4 P1.3/CEX0 (io), 5 P1.4/CEX1 (io), 6 P1.5/CEX2 (io), 7 P1.6/CEX3 (io), 8 P1.7/CEX4 (io), 9 RST (in), 10 P3.0/RxD (io), 11 P3.1/TxD (io), 12 P3.2/~{INT}0 (io), 13 P3.3/~{INT}1 (io), 14 P3.4/T0 (io), 15 P3.5/T1 (io), 16 P3.6/~{WR} (io), 17 P3.7/~{RD} (io), 18 XTAL2 (out), 19 XTAL1 (in), 20 VSS (power), 21 P2.0/A8 (io), 22 P2.1/A9 (io), 23 P2.2/A10 (io), 24 P2.3/A11 (io), 25 P2.4/A12 (io), 26 P2.5/A13 (io), 27 P2.6/A14 (io), 28 P2.7/A15 (io), 29 ~{PSEN} (out), 30 ALE/~{PROG} (io), 31 ~{EA}/VPP (in), 32 P0.7/AD7 (io), 33 P0.6/AD6 (io), 34 P0.5/AD5 (io), 35 P0.4/AD4 (io), 36 P0.3/AD3 (io), 37 P0.2/AD2 (io), 38 P0.1/AD1 (io), 39 P0.0/AD0 (io), 40 VCC (power)